# Altium integrated library Xilinx Spartan-3.IntLib: 75 symbols (part 2 of 16)
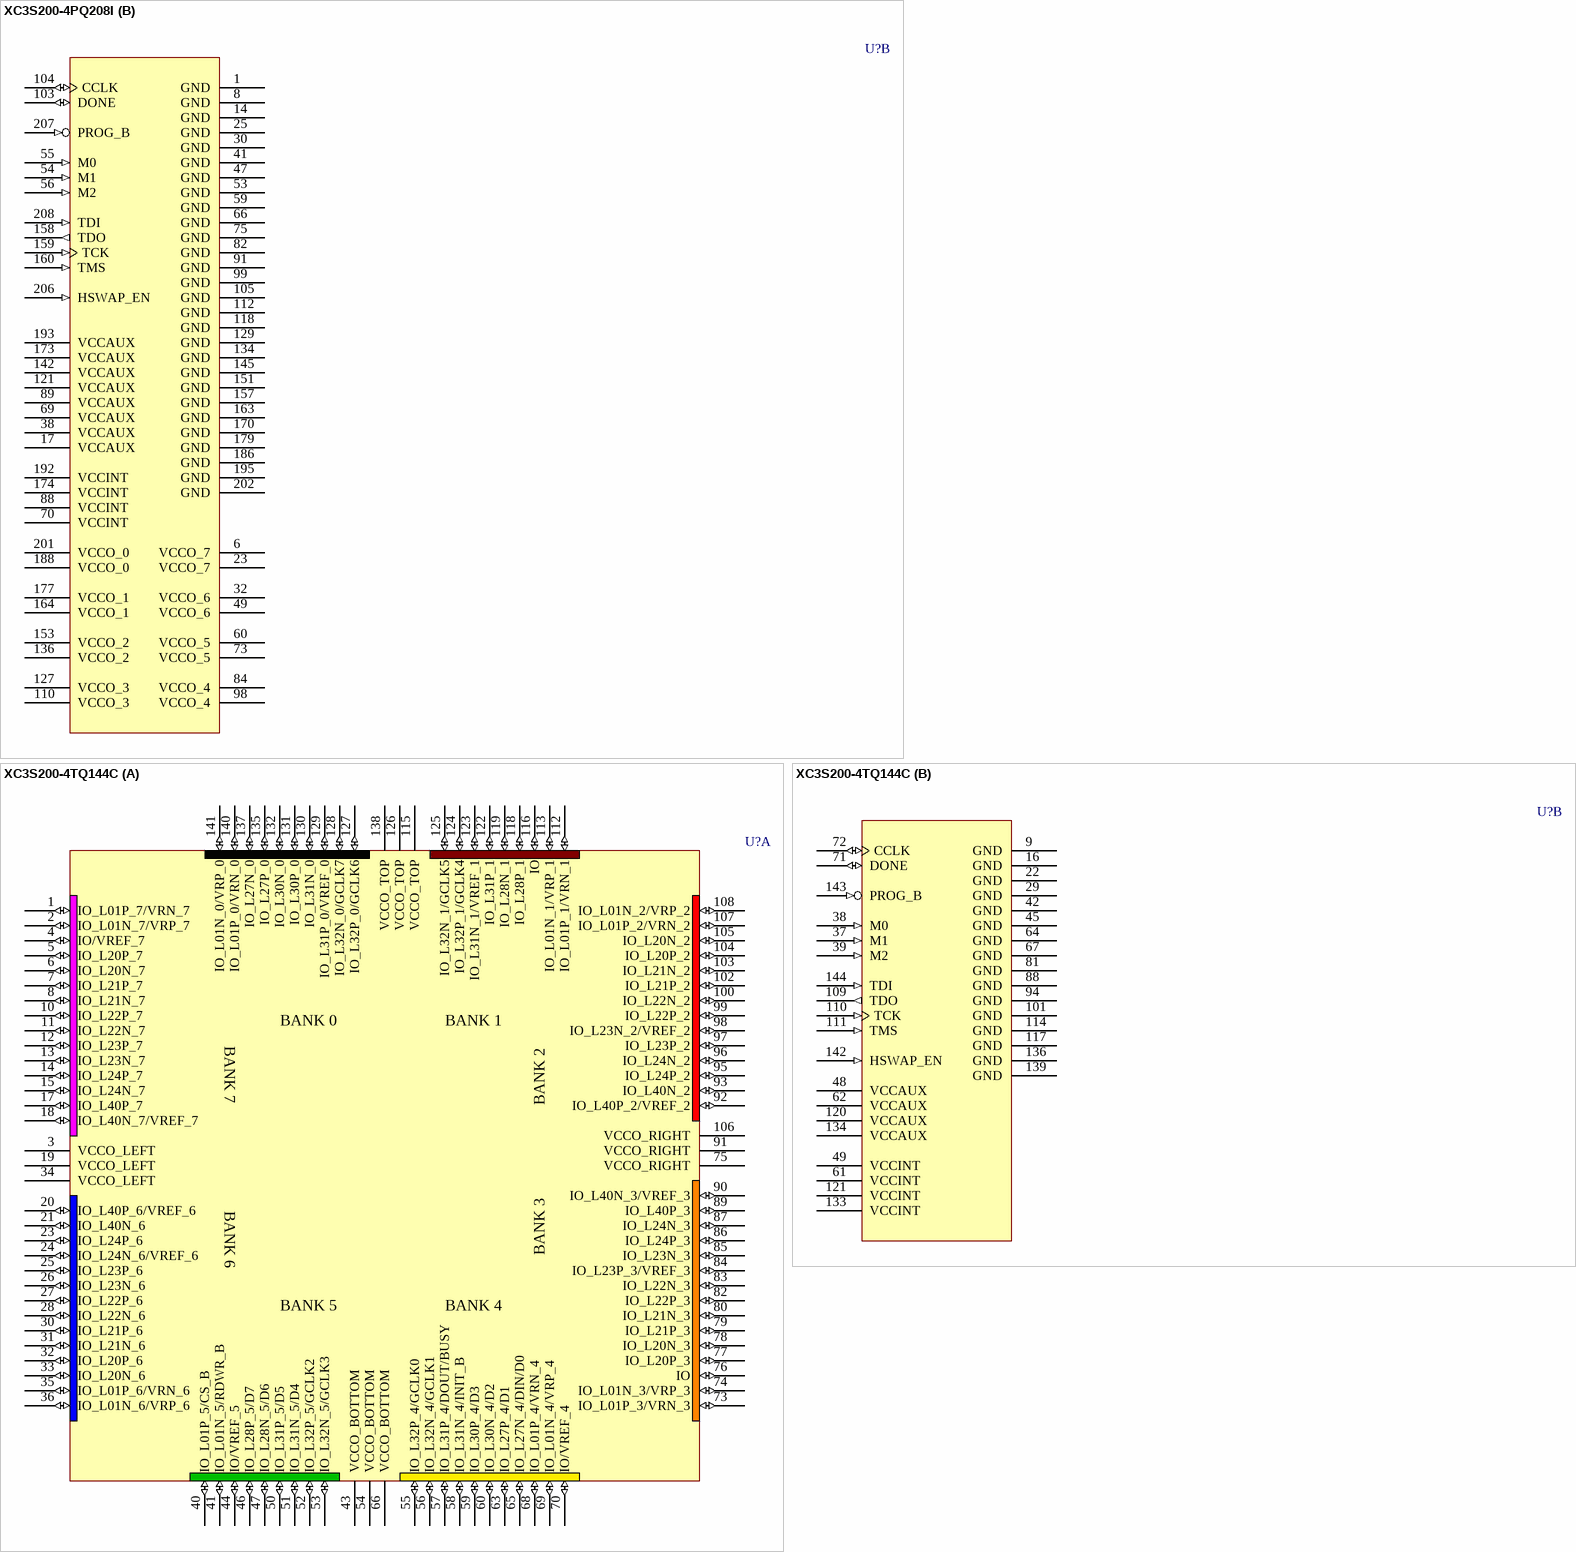
[diagram p168: symbols XC3S200-4PQ208I to XC3S200-4TQ144C]

## XC3S200-4PQ208I
designator U?
Spartan-3 1.2V FPGA, 141 User I/Os, 208-pin PQFP, Standard Performance, Industrial Grade; PackageDocument: ver1.1, Oct-2002; Published: 17-Sep-2003; DatasheetDocument: 04-Mar-2004; PackageReference: PQ208; Publisher: Altium Limited; Code_JEDEC: MS-029-FA-1
footprint PQ208 (208-Pin Plastic Quad Flat Pack (PQ208))
3D model XC3S200-PQ208 (208-Pin Plastic Quad Flat Pack (PQ208))
signal-integrity model XC3S200_PQ208 (Spartan-3)
part A pins: 2 IO_L01P_7/VRN_7 (io), 3 IO_L01N_7/VRP_7 (io), 4 IO_L16P_7/VREF_7 (io), 5 IO_L16N_7 (io), 7 IO_L19P_7 (io), 9 IO_L19N_7/VREF_7 (io), 10 IO_L20P_7 (io), 11 IO_L20N_7 (io), 12 IO_L21P_7 (io), 13 IO_L21N_7 (io), 15 IO_L22P_7 (io), 16 IO_L22N_7 (io), 18 IO_L23P_7 (io), 19 IO_L23N_7 (io), 20 IO_L24P_7 (io), 21 IO_L24N_7 (io), 22 IO_L39P_7 (io), 24 IO_L39N_7 (io), 26 IO_L40P_7 (io), 27 IO_L40N_7/VREF_7 (io), 28 IO_L40P_6/VREF_6 (io), 29 IO_L40N_6 (io), 31 IO_L39P_6 (io), 33 IO_L39N_6 (io), 34 IO_L24P_6 (io), 35 IO_L24N_6/VREF_6 (io), 36 IO_L23P_6 (io), 37 IO_L23N_6 (io), 39 IO_L22P_6 (io), 40 IO_L22N_6 (io), 42 IO_L21P_6 (io), 43 IO_L21N_6 (io), 44 IO_L20P_6 (io), 45 IO_L20N_6 (io), 46 IO_L19P_6 (io), 48 IO_L19N_6 (io), 50 IO/VREF_6 (io), 51 IO_L01P_6/VRN_6 (io), 52 IO_L01N_6/VRP_6 (io), 57 IO_L01P_5/CS_B (io), 58 IO_L01N_5/RDWR_B (io), 61 IO_L10P_5/VRN_5 (io), 62 IO_L10N_5/VRP_5 (io), 63 IO (io), 64 IO_L27P_5 (io), 65 IO_L27N_5/VREF_5 (io), 67 IO_L28P_5/D7 (io), 68 IO_L28N_5/D6 (io), 71 IO (io), 72 IO_L31P_5/D5 (io), 74 IO_L31N_5/D4 (io), 76 IO_L32P_5/GCLK2 (io), 77 IO_L32N_5/GCLK3 (io), 78 IO/VREF_5 (io), 79 IO_L32P_4/GCLK0 (io), 80 IO_L32N_4/GCLK1 (io), 81 IO_L31P_4/DOUT/BUSY (io), 83 IO_L31N_4/INIT_B (io), 85 IO/VREF_4 (io), 86 IO_L30P_4/D3 (io), 87 IO_L30N_4/D2 (io), 90 IO_L27P_4/D1 (io), 92 IO_L27N_4/DIN/D0 (io), 93 IO (io), 94 IO_L25P_4 (io), 95 IO_L25N_4 (io), 96 IO/VREF_4 (io), 97 IO (io), 100 IO_L01P_4/VRN_4 (io), 101 IO_L01N_4/VRP_4 (io), 102 IO/VREF_4 (io), 106 IO_L01P_3/VRN_3 (io), 107 IO_L01N_3/VRP_3 (io), 108 IO_L17P_3/VREF_3 (io), 109 IO_L17N_3 (io), 111 IO_L19P_3 (io), 113 IO_L19N_3 (io), 114 IO_L20P_3 (io), 115 IO_L20N_3 (io), 116 IO_L21P_3 (io), 117 IO_L21N_3 (io), 119 IO_L22P_3 (io), 120 IO_L22N_3 (io), 122 IO_L23P_3/VREF_3 (io), 123 IO_L23N_3 (io), 124 IO_L24P_3 (io), 125 IO_L24N_3 (io), 126 IO_L39P_3 (io), 128 IO_L39N_3 (io), 130 IO_L40P_3 (io), 131 IO_L40N_3/VREF_3 (io), 132 IO_L40P_2/VREF_2 (io), 133 IO_L40N_2 (io), 135 IO_L39P_2 (io), 137 IO_L39N_2 (io), 138 IO_L24P_2 (io), 139 IO_L24N_2 (io), 140 IO_L23P_2 (io), 141 IO_L23N_2/VREF_2 (io), 143 IO_L22P_2 (io), 144 IO_L22N_2 (io), 146 IO_L21P_2 (io), 147 IO_L21N_2 (io), 148 IO_L20P_2 (io), 149 IO_L20N_2 (io), 150 IO_L19P_2 (io), 152 IO_L19N_2 (io), 154 IO/VREF_2 (io), 155 IO_L01P_2/VRN_2 (io), 156 IO_L01N_2/VRP_2 (io), 161 IO_L01P_1/VRN_1 (io), 162 IO_L01N_1/VRP_1 (io), 165 IO_L10P_1 (io), 166 IO_L10N_1/VREF_1 (io), 167 IO (io), 168 IO_L27P_1 (io), 169 IO_L27N_1 (io), 171 IO_L28P_1 (io), 172 IO_L28N_1 (io), 175 IO (io), 176 IO_L31P_1 (io), 178 IO_L31N_1/VREF_1 (io), 180 IO_L32P_1/GCLK4 (io), 181 IO_L32N_1/GCLK5 (io), 182 IO (io), 183 IO_L32P_0/GCLK6 (io), 184 IO_L32N_0/GCLK7 (io), 185 IO_L31P_0/VREF_0 (io), 187 IO_L31N_0 (io), 189 IO (io), 190 IO_L30P_0 (io), 191 IO_L30N_0 (io), 194 IO_L27P_0 (io), 196 IO_L27N_0 (io), 197 IO (io), 198 IO_L25P_0 (io), 199 IO_L25N_0 (io), 200 IO/VREF_0 (io), 203 IO_L01P_0/VRN_0 (io), 204 IO_L01N_0/VRP_0 (io), 205 IO/VREF_0 (io)
part B pins: 1 GND (power), 6 VCCO_7 (power), 8 GND (power), 14 GND (power), 17 VCCAUX (power), 23 VCCO_7 (power), 25 GND (power), 30 GND (power), 32 VCCO_6 (power), 38 VCCAUX (power), 41 GND (power), 47 GND (power), 49 VCCO_6 (power), 53 GND (power), 54 M1 (in), 55 M0 (in), 56 M2 (in), 59 GND (power), 60 VCCO_5 (power), 66 GND (power), 69 VCCAUX (power), 70 VCCINT (power), 73 VCCO_5 (power), 75 GND (power), 82 GND (power), 84 VCCO_4 (power), 88 VCCINT (power), 89 VCCAUX (power), 91 GND (power), 98 VCCO_4 (power), 99 GND (power), 103 DONE (io), 104 CCLK (io), 105 GND (power), 110 VCCO_3 (power), 112 GND (power), 118 GND (power), 121 VCCAUX (power), 127 VCCO_3 (power), 129 GND (power), 134 GND (power), 136 VCCO_2 (power), 142 VCCAUX (power), 145 GND (power), 151 GND (power), 153 VCCO_2 (power), 157 GND (power), 158 TDO (out), 159 TCK (in), 160 TMS (in), 163 GND (power), 164 VCCO_1 (power), 170 GND (power), 173 VCCAUX (power), 174 VCCINT (power), 177 VCCO_1 (power), 179 GND (power), 186 GND (power), 188 VCCO_0 (power), 192 VCCINT (power), 193 VCCAUX (power), 195 GND (power), 201 VCCO_0 (power), 202 GND (power), 206 HSWAP_EN (in), 207 PROG_B (in), 208 TDI (in)
part A text: BANK 0; BANK 1; BANK 7; BANK 2; BANK 6; BANK 3; BANK 5; BANK 4

## XC3S200-4TQ144C
designator U?
Spartan-3 1.2V FPGA, 97 User I/Os, 144-pin TQFP, Standard Performance, Commercial Grade; PackageDocument: ver1.1, Oct-2002; Published: 17-Sep-2003; DatasheetDocument: 04-Mar-2004; PackageReference: TQ144; Publisher: Altium Limited; Code_JEDEC: MS-026-BFB; Code_IPC: SQFP20X20-144
footprint TQ144 (144-Pin Thin Quad Flat Pack (TQ144))
3D model XC3S200-TQ144 (144-Pin Thin Quad Flat Pack (TQ144))
signal-integrity model XC3S200_TQ144 (Spartan-3)
part A pins: 1 IO_L01P_7/VRN_7 (io), 2 IO_L01N_7/VRP_7 (io), 3 VCCO_LEFT (power), 4 IO/VREF_7 (io), 5 IO_L20P_7 (io), 6 IO_L20N_7 (io), 7 IO_L21P_7 (io), 8 IO_L21N_7 (io), 10 IO_L22P_7 (io), 11 IO_L22N_7 (io), 12 IO_L23P_7 (io), 13 IO_L23N_7 (io), 14 IO_L24P_7 (io), 15 IO_L24N_7 (io), 17 IO_L40P_7 (io), 18 IO_L40N_7/VREF_7 (io), 19 VCCO_LEFT (power), 20 IO_L40P_6/VREF_6 (io), 21 IO_L40N_6 (io), 23 IO_L24P_6 (io), 24 IO_L24N_6/VREF_6 (io), 25 IO_L23P_6 (io), 26 IO_L23N_6 (io), 27 IO_L22P_6 (io), 28 IO_L22N_6 (io), 30 IO_L21P_6 (io), 31 IO_L21N_6 (io), 32 IO_L20P_6 (io), 33 IO_L20N_6 (io), 34 VCCO_LEFT (power), 35 IO_L01P_6/VRN_6 (io), 36 IO_L01N_6/VRP_6 (io), 40 IO_L01P_5/CS_B (io), 41 IO_L01N_5/RDWR_B (io), 43 VCCO_BOTTOM (power), 44 IO/VREF_5 (io), 46 IO_L28P_5/D7 (io), 47 IO_L28N_5/D6 (io), 50 IO_L31P_5/D5 (io), 51 IO_L31N_5/D4 (io), 52 IO_L32P_5/GCLK2 (io), 53 IO_L32N_5/GCLK3 (io), 54 VCCO_BOTTOM (power), 55 IO_L32P_4/GCLK0 (io), 56 IO_L32N_4/GCLK1 (io), 57 IO_L31P_4/DOUT/BUSY (io), 58 IO_L31N_4/INIT_B (io), 59 IO_L30P_4/D3 (io), 60 IO_L30N_4/D2 (io), 63 IO_L27P_4/D1 (io), 65 IO_L27N_4/DIN/D0 (io), 66 VCCO_BOTTOM (power), 68 IO_L01P_4/VRN_4 (io), 69 IO_L01N_4/VRP_4 (io), 70 IO/VREF_4 (io), 73 IO_L01P_3/VRN_3 (io), 74 IO_L01N_3/VRP_3 (io), 75 VCCO_RIGHT (power), 76 IO (io), 77 IO_L20P_3 (io), 78 IO_L20N_3 (io), 79 IO_L21P_3 (io), 80 IO_L21N_3 (io), 82 IO_L22P_3 (io), 83 IO_L22N_3 (io), 84 IO_L23P_3/VREF_3 (io), 85 IO_L23N_3 (io), 86 IO_L24P_3 (io), 87 IO_L24N_3 (io), 89 IO_L40P_3 (io), 90 IO_L40N_3/VREF_3 (io), 91 VCCO_RIGHT (power), 92 IO_L40P_2/VREF_2 (io), 93 IO_L40N_2 (io), 95 IO_L24P_2 (io), 96 IO_L24N_2 (io), 97 IO_L23P_2 (io), 98 IO_L23N_2/VREF_2 (io), 99 IO_L22P_2 (io), 100 IO_L22N_2 (io), 102 IO_L21P_2 (io), 103 IO_L21N_2 (io), 104 IO_L20P_2 (io), 105 IO_L20N_2 (io), 106 VCCO_RIGHT (power), 107 IO_L01P_2/VRN_2 (io), 108 IO_L01N_2/VRP_2 (io), 112 IO_L01P_1/VRN_1 (io), 113 IO_L01N_1/VRP_1 (io), 115 VCCO_TOP (power), 116 IO (io), 118 IO_L28P_1 (io), 119 IO_L28N_1 (io), 122 IO_L31P_1 (io), 123 IO_L31N_1/VREF_1 (io), 124 IO_L32P_1/GCLK4 (io), 125 IO_L32N_1/GCLK5 (io), 126 VCCO_TOP (power), 127 IO_L32P_0/GCLK6 (io), 128 IO_L32N_0/GCLK7 (io), 129 IO_L31P_0/VREF_0 (io), 130 IO_L31N_0 (io), 131 IO_L30P_0 (io), 132 IO_L30N_0 (io), 135 IO_L27P_0 (io), 137 IO_L27N_0 (io), 138 VCCO_TOP (power), 140 IO_L01P_0/VRN_0 (io), 141 IO_L01N_0/VRP_0 (io)
part B pins: 9 GND (power), 16 GND (power), 22 GND (power), 29 GND (power), 37 M1 (in), 38 M0 (in), 39 M2 (in), 42 GND (power), 45 GND (power), 48 VCCAUX (power), 49 VCCINT (power), 61 VCCINT (power), 62 VCCAUX (power), 64 GND (power), 67 GND (power), 71 DONE (io), 72 CCLK (io), 81 GND (power), 88 GND (power), 94 GND (power), 101 GND (power), 109 TDO (out), 110 TCK (in), 111 TMS (in), 114 GND (power), 117 GND (power), 120 VCCAUX (power), 121 VCCINT (power), 133 VCCINT (power), 134 VCCAUX (power), 136 GND (power), 139 GND (power), 142 HSWAP_EN (in), 143 PROG_B (in), 144 TDI (in)
part A text: BANK 0; BANK 1; BANK 7; BANK 2; BANK 6; BANK 3; BANK 5; BANK 4

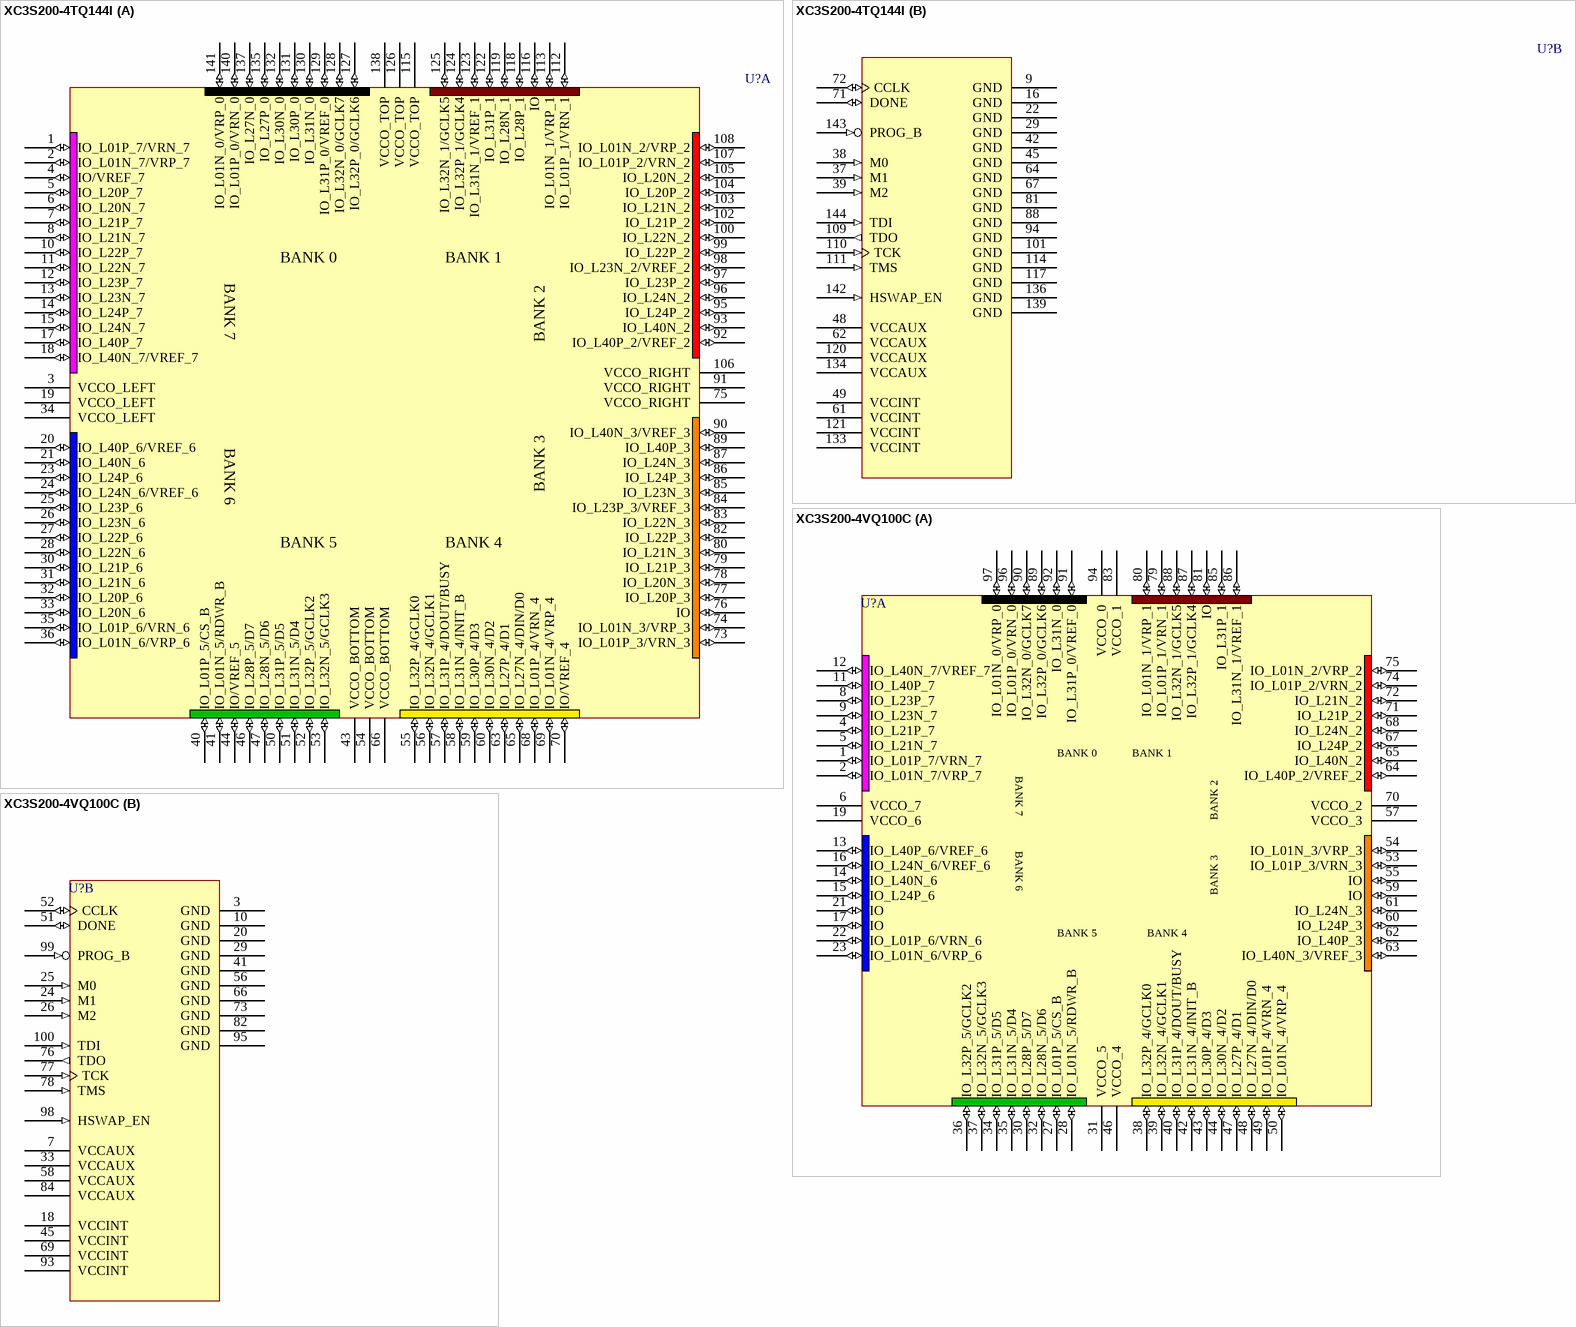
[diagram p14: symbols XC3S200-4TQ144I to XC3S200-4VQ100C]

## XC3S200-4TQ144I
designator U?
Spartan-3 1.2V FPGA, 97 User I/Os, 144-pin TQFP, Standard Performance, Industrial Grade; PackageDocument: ver1.1, Oct-2002; Published: 17-Sep-2003; DatasheetDocument: 04-Mar-2004; PackageReference: TQ144; Publisher: Altium Limited; Code_JEDEC: MS-026-BFB; Code_IPC: SQFP20X20-144
footprint TQ144 (144-Pin Thin Quad Flat Pack (TQ144))
3D model XC3S200-TQ144 (144-Pin Thin Quad Flat Pack (TQ144))
signal-integrity model XC3S200_TQ144 (Spartan-3)
part A pins: 1 IO_L01P_7/VRN_7 (io), 2 IO_L01N_7/VRP_7 (io), 3 VCCO_LEFT (power), 4 IO/VREF_7 (io), 5 IO_L20P_7 (io), 6 IO_L20N_7 (io), 7 IO_L21P_7 (io), 8 IO_L21N_7 (io), 10 IO_L22P_7 (io), 11 IO_L22N_7 (io), 12 IO_L23P_7 (io), 13 IO_L23N_7 (io), 14 IO_L24P_7 (io), 15 IO_L24N_7 (io), 17 IO_L40P_7 (io), 18 IO_L40N_7/VREF_7 (io), 19 VCCO_LEFT (power), 20 IO_L40P_6/VREF_6 (io), 21 IO_L40N_6 (io), 23 IO_L24P_6 (io), 24 IO_L24N_6/VREF_6 (io), 25 IO_L23P_6 (io), 26 IO_L23N_6 (io), 27 IO_L22P_6 (io), 28 IO_L22N_6 (io), 30 IO_L21P_6 (io), 31 IO_L21N_6 (io), 32 IO_L20P_6 (io), 33 IO_L20N_6 (io), 34 VCCO_LEFT (power), 35 IO_L01P_6/VRN_6 (io), 36 IO_L01N_6/VRP_6 (io), 40 IO_L01P_5/CS_B (io), 41 IO_L01N_5/RDWR_B (io), 43 VCCO_BOTTOM (power), 44 IO/VREF_5 (io), 46 IO_L28P_5/D7 (io), 47 IO_L28N_5/D6 (io), 50 IO_L31P_5/D5 (io), 51 IO_L31N_5/D4 (io), 52 IO_L32P_5/GCLK2 (io), 53 IO_L32N_5/GCLK3 (io), 54 VCCO_BOTTOM (power), 55 IO_L32P_4/GCLK0 (io), 56 IO_L32N_4/GCLK1 (io), 57 IO_L31P_4/DOUT/BUSY (io), 58 IO_L31N_4/INIT_B (io), 59 IO_L30P_4/D3 (io), 60 IO_L30N_4/D2 (io), 63 IO_L27P_4/D1 (io), 65 IO_L27N_4/DIN/D0 (io), 66 VCCO_BOTTOM (power), 68 IO_L01P_4/VRN_4 (io), 69 IO_L01N_4/VRP_4 (io), 70 IO/VREF_4 (io), 73 IO_L01P_3/VRN_3 (io), 74 IO_L01N_3/VRP_3 (io), 75 VCCO_RIGHT (power), 76 IO (io), 77 IO_L20P_3 (io), 78 IO_L20N_3 (io), 79 IO_L21P_3 (io), 80 IO_L21N_3 (io), 82 IO_L22P_3 (io), 83 IO_L22N_3 (io), 84 IO_L23P_3/VREF_3 (io), 85 IO_L23N_3 (io), 86 IO_L24P_3 (io), 87 IO_L24N_3 (io), 89 IO_L40P_3 (io), 90 IO_L40N_3/VREF_3 (io), 91 VCCO_RIGHT (power), 92 IO_L40P_2/VREF_2 (io), 93 IO_L40N_2 (io), 95 IO_L24P_2 (io), 96 IO_L24N_2 (io), 97 IO_L23P_2 (io), 98 IO_L23N_2/VREF_2 (io), 99 IO_L22P_2 (io), 100 IO_L22N_2 (io), 102 IO_L21P_2 (io), 103 IO_L21N_2 (io), 104 IO_L20P_2 (io), 105 IO_L20N_2 (io), 106 VCCO_RIGHT (power), 107 IO_L01P_2/VRN_2 (io), 108 IO_L01N_2/VRP_2 (io), 112 IO_L01P_1/VRN_1 (io), 113 IO_L01N_1/VRP_1 (io), 115 VCCO_TOP (power), 116 IO (io), 118 IO_L28P_1 (io), 119 IO_L28N_1 (io), 122 IO_L31P_1 (io), 123 IO_L31N_1/VREF_1 (io), 124 IO_L32P_1/GCLK4 (io), 125 IO_L32N_1/GCLK5 (io), 126 VCCO_TOP (power), 127 IO_L32P_0/GCLK6 (io), 128 IO_L32N_0/GCLK7 (io), 129 IO_L31P_0/VREF_0 (io), 130 IO_L31N_0 (io), 131 IO_L30P_0 (io), 132 IO_L30N_0 (io), 135 IO_L27P_0 (io), 137 IO_L27N_0 (io), 138 VCCO_TOP (power), 140 IO_L01P_0/VRN_0 (io), 141 IO_L01N_0/VRP_0 (io)
part B pins: 9 GND (power), 16 GND (power), 22 GND (power), 29 GND (power), 37 M1 (in), 38 M0 (in), 39 M2 (in), 42 GND (power), 45 GND (power), 48 VCCAUX (power), 49 VCCINT (power), 61 VCCINT (power), 62 VCCAUX (power), 64 GND (power), 67 GND (power), 71 DONE (io), 72 CCLK (io), 81 GND (power), 88 GND (power), 94 GND (power), 101 GND (power), 109 TDO (out), 110 TCK (in), 111 TMS (in), 114 GND (power), 117 GND (power), 120 VCCAUX (power), 121 VCCINT (power), 133 VCCINT (power), 134 VCCAUX (power), 136 GND (power), 139 GND (power), 142 HSWAP_EN (in), 143 PROG_B (in), 144 TDI (in)
part A text: BANK 0; BANK 1; BANK 7; BANK 2; BANK 6; BANK 3; BANK 5; BANK 4

## XC3S200-4VQ100C
designator U?
Spartan-3 1.2V FPGA, 63 User I/Os, 100-pin VQFP, Standard Performance, Commercial Grade; PackageDocument: ver1.1, Oct-2002; Published: 17-Sep-2003; DatasheetDocument: 04-Mar-2004; PackageReference: VQ100; Publisher: Altium Limited; Code_JEDEC: MS-026-AED; Code_IPC: SQFP14X14-100
footprint VQ100 (100-Pin Very Thin Quad Flat Pack (VQ100))
3D model XC3S200-VQ100 (100-Pin Very Thin Quad Flat Pack (VQ100))
signal-integrity model XC3S200_VQ100 (Spartan-3)
part A pins: 1 IO_L01P_7/VRN_7 (io), 2 IO_L01N_7/VRP_7 (io), 4 IO_L21P_7 (io), 5 IO_L21N_7 (io), 6 VCCO_7 (power), 8 IO_L23P_7 (io), 9 IO_L23N_7 (io), 11 IO_L40P_7 (io), 12 IO_L40N_7/VREF_7 (io), 13 IO_L40P_6/VREF_6 (io), 14 IO_L40N_6 (io), 15 IO_L24P_6 (io), 16 IO_L24N_6/VREF_6 (io), 17 IO (io), 19 VCCO_6 (power), 21 IO (io), 22 IO_L01P_6/VRN_6 (io), 23 IO_L01N_6/VRP_6 (io), 27 IO_L01P_5/CS_B (io), 28 IO_L01N_5/RDWR_B (io), 30 IO_L28P_5/D7 (io), 31 VCCO_5 (power), 32 IO_L28N_5/D6 (io), 34 IO_L31P_5/D5 (io), 35 IO_L31N_5/D4 (io), 36 IO_L32P_5/GCLK2 (io), 37 IO_L32N_5/GCLK3 (io), 38 IO_L32P_4/GCLK0 (io), 39 IO_L32N_4/GCLK1 (io), 40 IO_L31P_4/DOUT/BUSY (io), 42 IO_L31N_4/INIT_B (io), 43 IO_L30P_4/D3 (io), 44 IO_L30N_4/D2 (io), 46 VCCO_4 (power), 47 IO_L27P_4/D1 (io), 48 IO_L27N_4/DIN/D0 (io), 49 IO_L01P_4/VRN_4 (io), 50 IO_L01N_4/VRP_4 (io), 53 IO_L01P_3/VRN_3 (io), 54 IO_L01N_3/VRP_3 (io), 55 IO (io), 57 VCCO_3 (power), 59 IO (io), 60 IO_L24P_3 (io), 61 IO_L24N_3 (io), 62 IO_L40P_3 (io), 63 IO_L40N_3/VREF_3 (io), 64 IO_L40P_2/VREF_2 (io), 65 IO_L40N_2 (io), 67 IO_L24P_2 (io), 68 IO_L24N_2 (io), 70 VCCO_2 (power), 71 IO_L21P_2 (io), 72 IO_L21N_2 (io), 74 IO_L01P_2/VRN_2 (io), 75 IO_L01N_2/VRP_2 (io), 79 IO_L01P_1/VRN_1 (io), 80 IO_L01N_1/VRP_1 (io), 81 IO (io), 83 VCCO_1 (power), 85 IO_L31P_1 (io), 86 IO_L31N_1/VREF_1 (io), 87 IO_L32P_1/GCLK4 (io), 88 IO_L32N_1/GCLK5 (io), 89 IO_L32P_0/GCLK6 (io), 90 IO_L32N_0/GCLK7 (io), 91 IO_L31P_0/VREF_0 (io), 92 IO_L31N_0 (io), 94 VCCO_0 (power), 96 IO_L01P_0/VRN_0 (io), 97 IO_L01N_0/VRP_0 (io)
part B pins: 3 GND (power), 7 VCCAUX (power), 10 GND (power), 18 VCCINT (power), 20 GND (power), 24 M1 (in), 25 M0 (in), 26 M2 (in), 29 GND (power), 33 VCCAUX (power), 41 GND (power), 45 VCCINT (power), 51 DONE (io), 52 CCLK (io), 56 GND (power), 58 VCCAUX (power), 66 GND (power), 69 VCCINT (power), 73 GND (power), 76 TDO (out), 77 TCK (in), 78 TMS (in), 82 GND (power), 84 VCCAUX (power), 93 VCCINT (power), 95 GND (power), 98 HSWAP_EN (in), 99 PROG_B (in), 100 TDI (in)
part A text: BANK 0; BANK 1; BANK 7; BANK 2; BANK 6; BANK 3; BANK 5; BANK 4

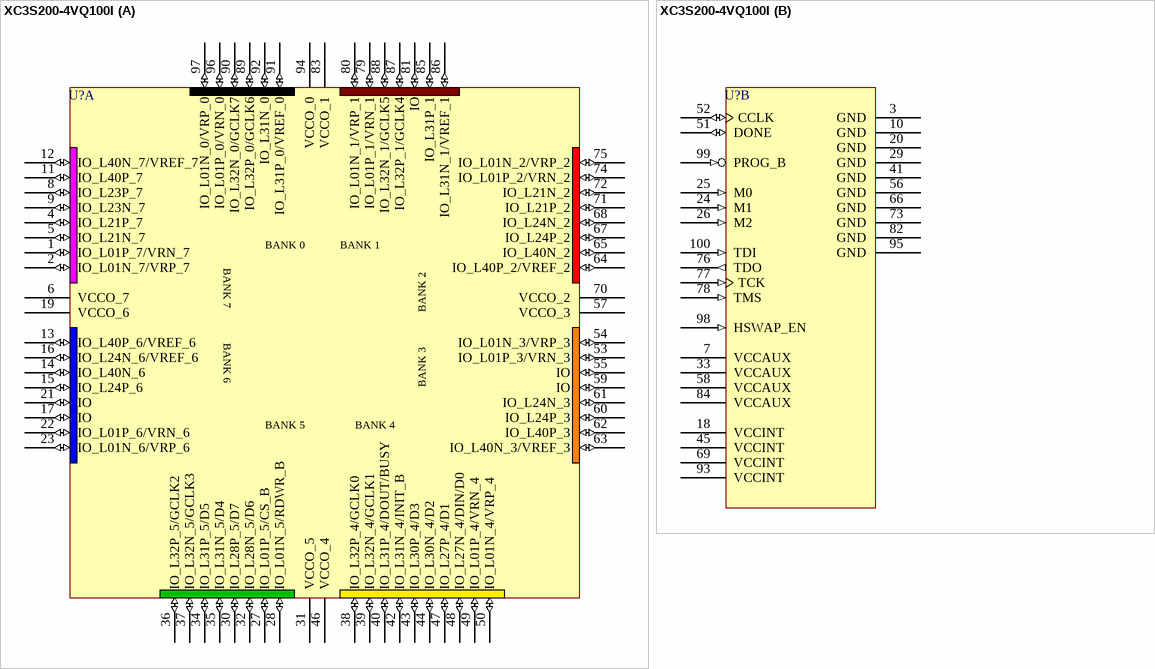
[diagram p15: symbol XC3S200-4VQ100I]

## XC3S200-4VQ100I
designator U?
Spartan-3 1.2V FPGA, 63 User I/Os, 100-pin VQFP, Standard Performance, Industrial Grade; PackageDocument: ver1.1, Oct-2002; Published: 17-Sep-2003; DatasheetDocument: 04-Mar-2004; PackageReference: VQ100; Publisher: Altium Limited; Code_JEDEC: MS-026-AED; Code_IPC: SQFP14X14-100
footprint VQ100 (100-Pin Very Thin Quad Flat Pack (VQ100))
3D model XC3S200-VQ100 (100-Pin Very Thin Quad Flat Pack (VQ100))
signal-integrity model XC3S200_VQ100 (Spartan-3)
part A pins: 1 IO_L01P_7/VRN_7 (io), 2 IO_L01N_7/VRP_7 (io), 4 IO_L21P_7 (io), 5 IO_L21N_7 (io), 6 VCCO_7 (power), 8 IO_L23P_7 (io), 9 IO_L23N_7 (io), 11 IO_L40P_7 (io), 12 IO_L40N_7/VREF_7 (io), 13 IO_L40P_6/VREF_6 (io), 14 IO_L40N_6 (io), 15 IO_L24P_6 (io), 16 IO_L24N_6/VREF_6 (io), 17 IO (io), 19 VCCO_6 (power), 21 IO (io), 22 IO_L01P_6/VRN_6 (io), 23 IO_L01N_6/VRP_6 (io), 27 IO_L01P_5/CS_B (io), 28 IO_L01N_5/RDWR_B (io), 30 IO_L28P_5/D7 (io), 31 VCCO_5 (power), 32 IO_L28N_5/D6 (io), 34 IO_L31P_5/D5 (io), 35 IO_L31N_5/D4 (io), 36 IO_L32P_5/GCLK2 (io), 37 IO_L32N_5/GCLK3 (io), 38 IO_L32P_4/GCLK0 (io), 39 IO_L32N_4/GCLK1 (io), 40 IO_L31P_4/DOUT/BUSY (io), 42 IO_L31N_4/INIT_B (io), 43 IO_L30P_4/D3 (io), 44 IO_L30N_4/D2 (io), 46 VCCO_4 (power), 47 IO_L27P_4/D1 (io), 48 IO_L27N_4/DIN/D0 (io), 49 IO_L01P_4/VRN_4 (io), 50 IO_L01N_4/VRP_4 (io), 53 IO_L01P_3/VRN_3 (io), 54 IO_L01N_3/VRP_3 (io), 55 IO (io), 57 VCCO_3 (power), 59 IO (io), 60 IO_L24P_3 (io), 61 IO_L24N_3 (io), 62 IO_L40P_3 (io), 63 IO_L40N_3/VREF_3 (io), 64 IO_L40P_2/VREF_2 (io), 65 IO_L40N_2 (io), 67 IO_L24P_2 (io), 68 IO_L24N_2 (io), 70 VCCO_2 (power), 71 IO_L21P_2 (io), 72 IO_L21N_2 (io), 74 IO_L01P_2/VRN_2 (io), 75 IO_L01N_2/VRP_2 (io), 79 IO_L01P_1/VRN_1 (io), 80 IO_L01N_1/VRP_1 (io), 81 IO (io), 83 VCCO_1 (power), 85 IO_L31P_1 (io), 86 IO_L31N_1/VREF_1 (io), 87 IO_L32P_1/GCLK4 (io), 88 IO_L32N_1/GCLK5 (io), 89 IO_L32P_0/GCLK6 (io), 90 IO_L32N_0/GCLK7 (io), 91 IO_L31P_0/VREF_0 (io), 92 IO_L31N_0 (io), 94 VCCO_0 (power), 96 IO_L01P_0/VRN_0 (io), 97 IO_L01N_0/VRP_0 (io)
part B pins: 3 GND (power), 7 VCCAUX (power), 10 GND (power), 18 VCCINT (power), 20 GND (power), 24 M1 (in), 25 M0 (in), 26 M2 (in), 29 GND (power), 33 VCCAUX (power), 41 GND (power), 45 VCCINT (power), 51 DONE (io), 52 CCLK (io), 56 GND (power), 58 VCCAUX (power), 66 GND (power), 69 VCCINT (power), 73 GND (power), 76 TDO (out), 77 TCK (in), 78 TMS (in), 82 GND (power), 84 VCCAUX (power), 93 VCCINT (power), 95 GND (power), 98 HSWAP_EN (in), 99 PROG_B (in), 100 TDI (in)
part A text: BANK 0; BANK 1; BANK 7; BANK 2; BANK 6; BANK 3; BANK 5; BANK 4

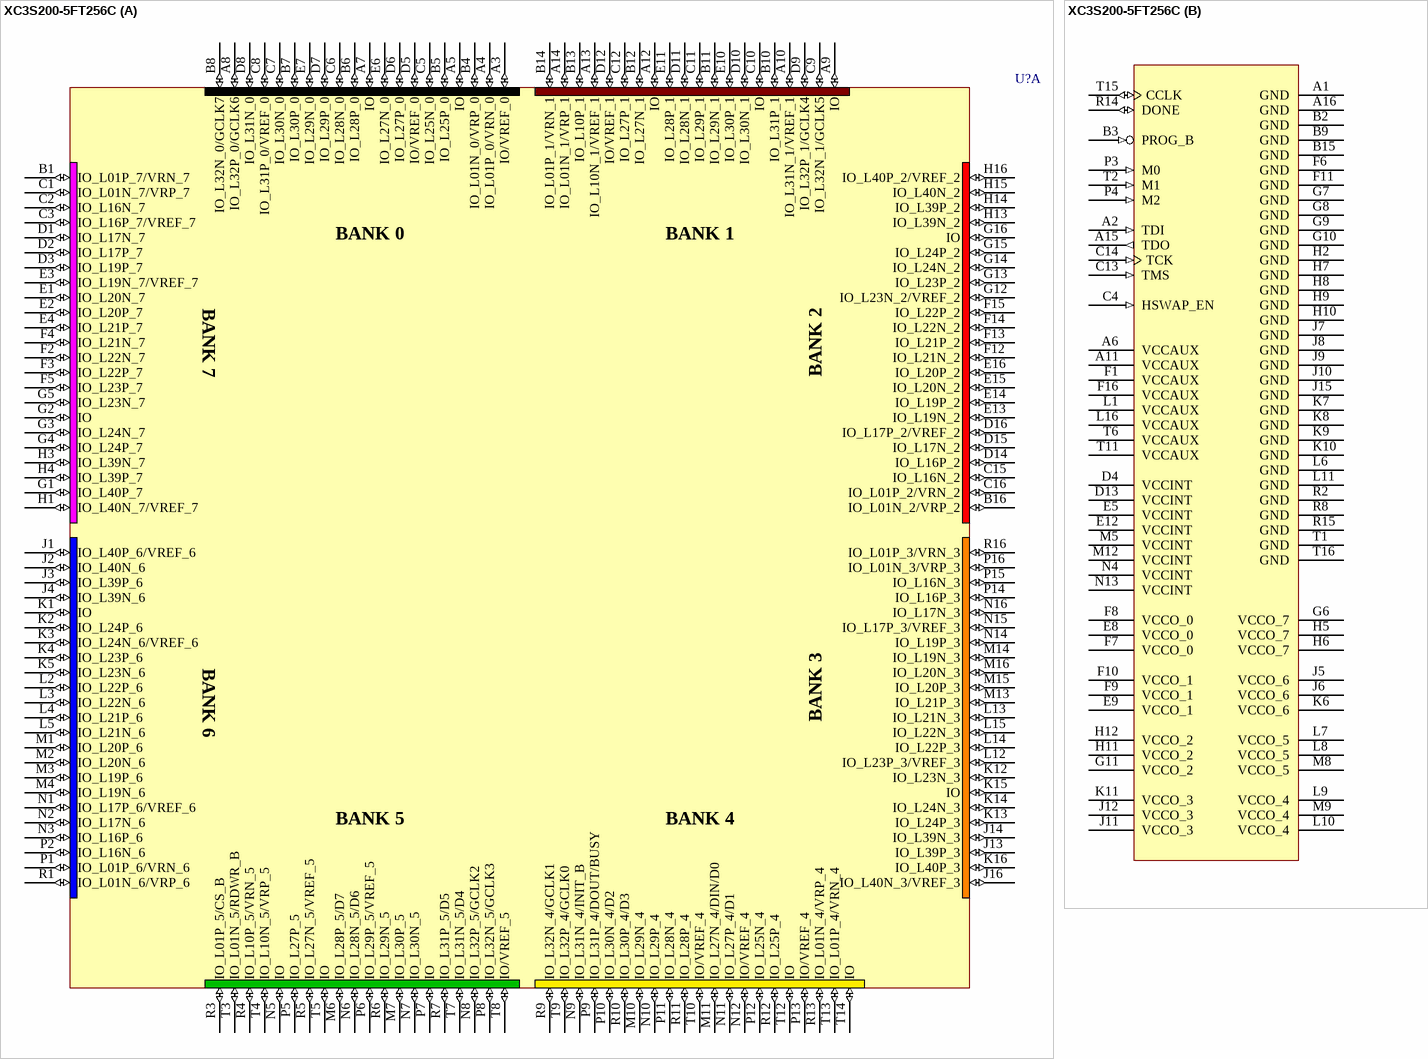
[diagram p16: symbol XC3S200-5FT256C]

## XC3S200-5FT256C
designator U?
Spartan-3 1.2V FPGA, 173 User I/Os, 256-ball FTBGA, High Performance, Commercial Grade; PackageDocument: ver1.0, Apr-2001; Published: 17-Sep-2003; DatasheetDocument: 04-Mar-2004; PackageReference: FT256; Publisher: Altium Limited; Code_JEDEC: MS-034-AAF-1*
footprint FT256 (256-Ball Fine Pitch Thin Ball Grid Array (FT256))
3D model XC3S200-FT256 (256-Ball Fine Pitch Thin Ball Grid Array (FT256))
signal-integrity model XC3S200_FT256 (Spartan-3)
part A pins: A3 IO/VREF_0 (io), A4 IO_L01P_0/VRN_0 (io), A5 IO (io), A7 IO (io), A8 IO_L32P_0/GCLK6 (io), A9 IO (io), A10 IO_L31N_1/VREF_1 (io), A12 IO (io), A13 IO_L10N_1/VREF_1 (io), A14 IO_L01N_1/VRP_1 (io), B1 IO_L01P_7/VRN_7 (io), B4 IO_L01N_0/VRP_0 (io), B5 IO_L25P_0 (io), B6 IO_L28P_0 (io), B7 IO_L30P_0 (io), B8 IO_L32N_0/GCLK7 (io), B10 IO_L31P_1 (io), B11 IO_L29N_1 (io), B12 IO_L27N_1 (io), B13 IO_L10P_1 (io), B14 IO_L01P_1/VRN_1 (io), B16 IO_L01N_2/VRP_2 (io), C1 IO_L01N_7/VRP_7 (io), C2 IO_L16N_7 (io), C3 IO_L16P_7/VREF_7 (io), C5 IO_L25N_0 (io), C6 IO_L28N_0 (io), C7 IO_L30N_0 (io), C8 IO_L31P_0/VREF_0 (io), C9 IO_L32N_1/GCLK5 (io), C10 IO (io), C11 IO_L29P_1 (io), C12 IO_L27P_1 (io), C15 IO_L16N_2 (io), C16 IO_L01P_2/VRN_2 (io), D1 IO_L17N_7 (io), D2 IO_L17P_7 (io), D3 IO_L19P_7 (io), D5 IO/VREF_0 (io), D6 IO_L27P_0 (io), D7 IO_L29P_0 (io), D8 IO_L31N_0 (io), D9 IO_L32P_1/GCLK4 (io), D10 IO_L30N_1 (io), D11 IO_L28N_1 (io), D12 IO/VREF_1 (io), D14 IO_L16P_2 (io), D15 IO_L17N_2 (io), D16 IO_L17P_2/VREF_2 (io), E1 IO_L20N_7 (io), E2 IO_L20P_7 (io), E3 IO_L19N_7/VREF_7 (io), E4 IO_L21P_7 (io), E6 IO_L27N_0 (io), E7 IO_L29N_0 (io), E10 IO_L30P_1 (io), E11 IO_L28P_1 (io), E13 IO_L19N_2 (io), E14 IO_L19P_2 (io), E15 IO_L20N_2 (io), E16 IO_L20P_2 (io), F2 IO_L22N_7 (io), F3 IO_L22P_7 (io), F4 IO_L21N_7 (io), F5 IO_L23P_7 (io), F12 IO_L21N_2 (io), F13 IO_L21P_2 (io), F14 IO_L22N_2 (io), F15 IO_L22P_2 (io), G1 IO_L40P_7 (io), G2 IO (io), G3 IO_L24N_7 (io), G4 IO_L24P_7 (io), G5 IO_L23N_7 (io), G12 IO_L23N_2/VREF_2 (io), G13 IO_L23P_2 (io), G14 IO_L24N_2 (io), G15 IO_L24P_2 (io), G16 IO (io), H1 IO_L40N_7/VREF_7 (io), H3 IO_L39N_7 (io), H4 IO_L39P_7 (io), H13 IO_L39N_2 (io), H14 IO_L39P_2 (io), H15 IO_L40N_2 (io), H16 IO_L40P_2/VREF_2 (io), J1 IO_L40P_6/VREF_6 (io), J2 IO_L40N_6 (io), J3 IO_L39P_6 (io), J4 IO_L39N_6 (io), J13 IO_L39P_3 (io), J14 IO_L39N_3 (io), J16 IO_L40N_3/VREF_3 (io), K1 IO (io), K2 IO_L24P_6 (io), K3 IO_L24N_6/VREF_6 (io), K4 IO_L23P_6 (io), K5 IO_L23N_6 (io), K12 IO_L23N_3 (io), K13 IO_L24P_3 (io), K14 IO_L24N_3 (io), K15 IO (io), K16 IO_L40P_3 (io), L2 IO_L22P_6 (io), L3 IO_L22N_6 (io), L4 IO_L21P_6 (io), L5 IO_L21N_6 (io), L12 IO_L23P_3/VREF_3 (io), L13 IO_L21N_3 (io), L14 IO_L22P_3 (io), L15 IO_L22N_3 (io), M1 IO_L20P_6 (io), M2 IO_L20N_6 (io), M3 IO_L19P_6 (io), M4 IO_L19N_6 (io), M6 IO_L28P_5/D7 (io), M7 IO_L30P_5 (io), M10 IO_L29N_4 (io), M11 IO_L27N_4/DIN/D0 (io), M13 IO_L21P_3 (io), M14 IO_L19N_3 (io), M15 IO_L20P_3 (io), M16 IO_L20N_3 (io), N1 IO_L17P_6/VREF_6 (io), N2 IO_L17N_6 (io), N3 IO_L16P_6 (io), N5 IO (io), N6 IO_L28N_5/D6 (io), N7 IO_L30N_5 (io), N8 IO_L32P_5/GCLK2 (io), N9 IO_L31N_4/INIT_B (io), N10 IO_L29P_4 (io), N11 IO_L27P_4/D1 (io), N12 IO/VREF_4 (io), N14 IO_L19P_3 (io), N15 IO_L17P_3/VREF_3 (io), N16 IO_L17N_3 (io), P1 IO_L01P_6/VRN_6 (io), P2 IO_L16N_6 (io), P5 IO_L27P_5 (io), P6 IO_L29P_5/VREF_5 (io), P7 IO (io), P8 IO_L32N_5/GCLK3 (io), P9 IO_L31P_4/DOUT/BUSY (io), P10 IO_L30N_4/D2 (io), P11 IO_L28N_4 (io), P12 IO_L25N_4 (io), P13 IO/VREF_4 (io), P14 IO_L16P_3 (io), P15 IO_L16N_3 (io), P16 IO_L01N_3/VRP_3 (io), R1 IO_L01N_6/VRP_6 (io), R3 IO_L01P_5/CS_B (io), R4 IO_L10P_5/VRN_5 (io), R5 IO_L27N_5/VREF_5 (io), R6 IO_L29N_5 (io), R7 IO_L31P_5/D5 (io), R9 IO_L32N_4/GCLK1 (io), R10 IO_L30P_4/D3 (io), R11 IO_L28P_4 (io), R12 IO_L25P_4 (io), R13 IO_L01N_4/VRP_4 (io), R16 IO_L01P_3/VRN_3 (io), T3 IO_L01N_5/RDWR_B (io), T4 IO_L10N_5/VRP_5 (io), T5 IO (io), T7 IO_L31N_5/D4 (io), T8 IO/VREF_5 (io), T9 IO_L32P_4/GCLK0 (io), T10 IO/VREF_4 (io), T12 IO (io), T13 IO_L01P_4/VRN_4 (io), T14 IO (io)
part B pins: A1 GND (power), A2 TDI (in), A6 VCCAUX (power), A11 VCCAUX (power), A15 TDO (out), A16 GND (power), B2 GND (power), B3 PROG_B (in), B9 GND (power), B15 GND (power), C4 HSWAP_EN (in), C13 TMS (in), C14 TCK (in), D4 VCCINT (power), D13 VCCINT (power), E5 VCCINT (power), E8 VCCO_0 (power), E9 VCCO_1 (power), E12 VCCINT (power), F1 VCCAUX (power), F6 GND (power), F7 VCCO_0 (power), F8 VCCO_0 (power), F9 VCCO_1 (power), F10 VCCO_1 (power), F11 GND (power), F16 VCCAUX (power), G6 VCCO_7 (power), G7 GND (power), G8 GND (power), G9 GND (power), G10 GND (power), G11 VCCO_2 (power), H2 GND (power), H5 VCCO_7 (power), H6 VCCO_7 (power), H7 GND (power), H8 GND (power), H9 GND (power), H10 GND (power), H11 VCCO_2 (power), H12 VCCO_2 (power), J5 VCCO_6 (power), J6 VCCO_6 (power), J7 GND (power), J8 GND (power), J9 GND (power), J10 GND (power), J11 VCCO_3 (power), J12 VCCO_3 (power), J15 GND (power), K6 VCCO_6 (power), K7 GND (power), K8 GND (power), K9 GND (power), K10 GND (power), K11 VCCO_3 (power), L1 VCCAUX (power), L6 GND (power), L7 VCCO_5 (power), L8 VCCO_5 (power), L9 VCCO_4 (power), L10 VCCO_4 (power), L11 GND (power), L16 VCCAUX (power), M5 VCCINT (power), M8 VCCO_5 (power), M9 VCCO_4 (power), M12 VCCINT (power), N4 VCCINT (power), N13 VCCINT (power), P3 M0 (in), P4 M2 (in), R2 GND (power), R8 GND (power), R14 DONE (io), R15 GND (power), T1 GND (power), T2 M1 (in), T6 VCCAUX (power), T11 VCCAUX (power), T15 CCLK (io), T16 GND (power)
part A text: BANK 0; BANK 1; BANK 7; BANK 2; BANK 6; BANK 3; BANK 5; BANK 4

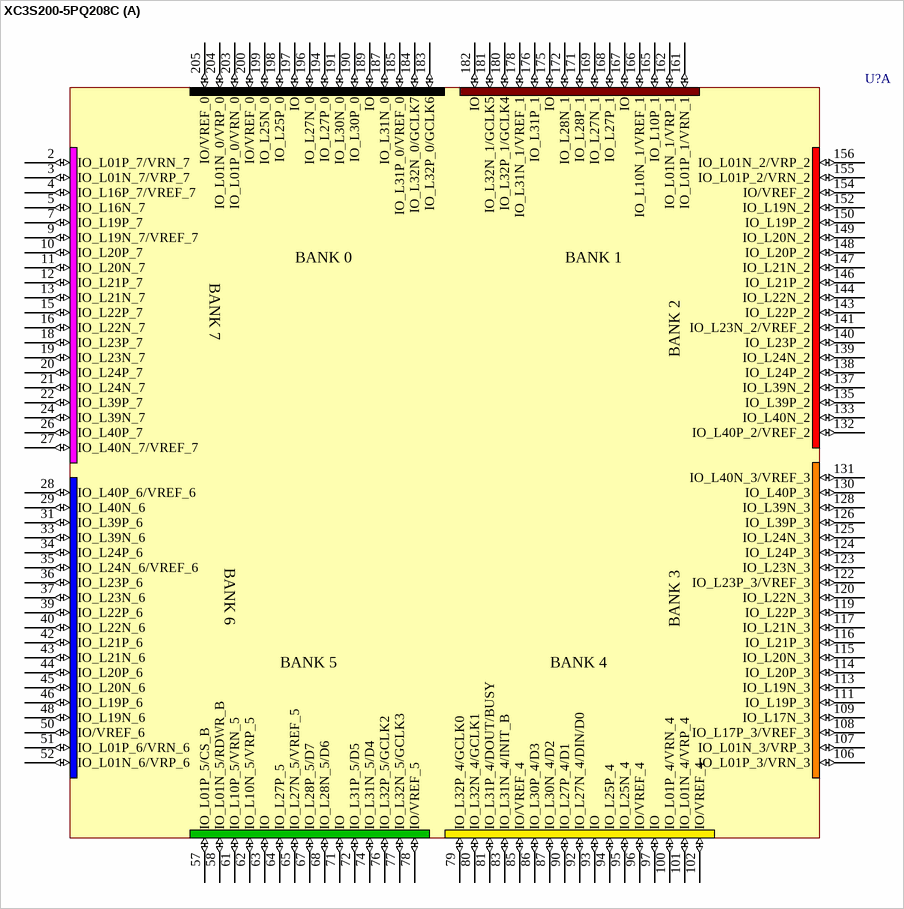
[diagram p17: symbol XC3S200-5PQ208C]

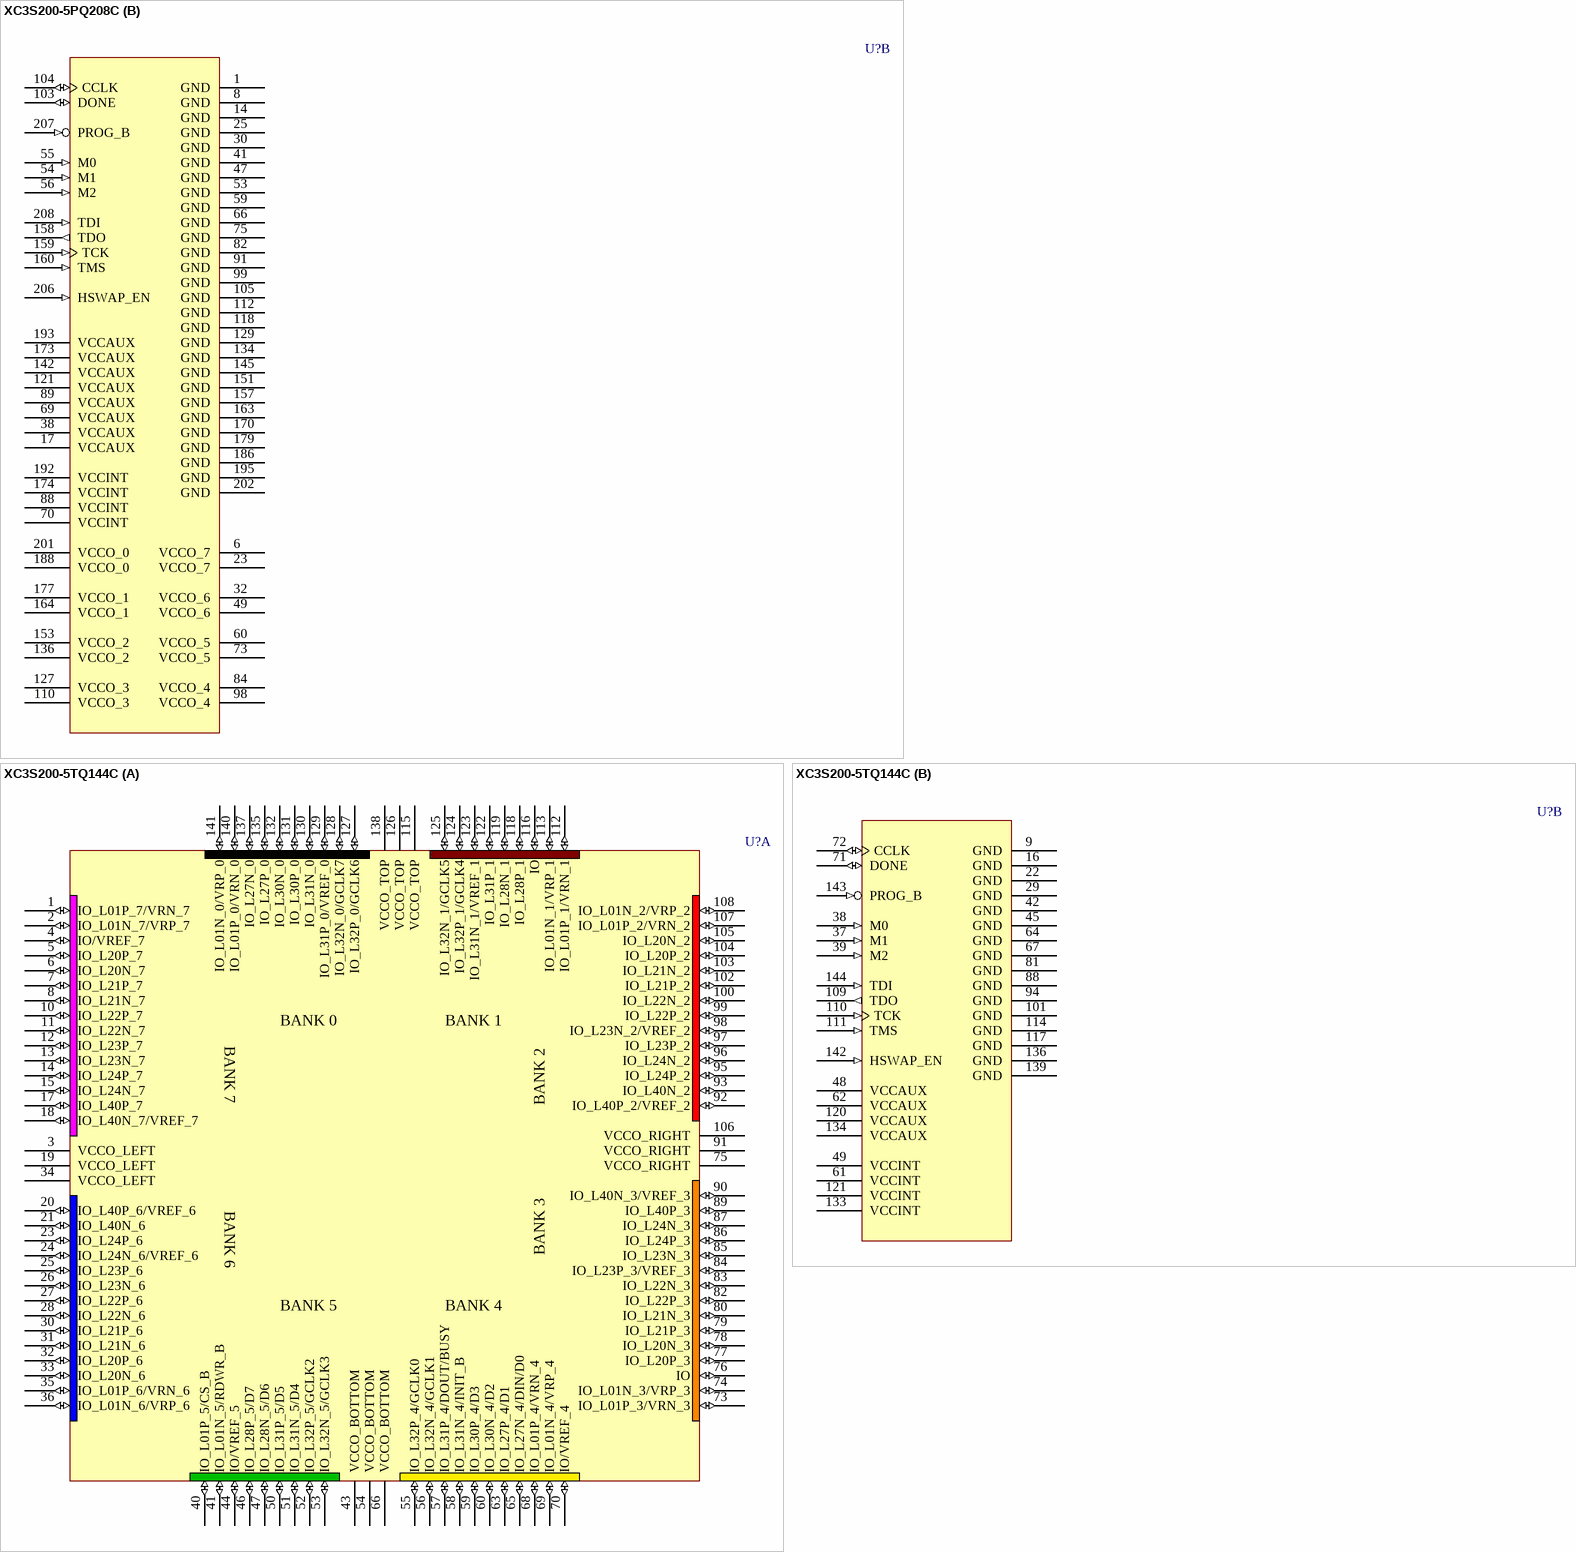
[diagram p18: symbols XC3S200-5PQ208C to XC3S200-5TQ144C]

## XC3S200-5PQ208C
designator U?
Spartan-3 1.2V FPGA, 141 User I/Os, 208-pin PQFP, High Performance, Commercial Grade; PackageDocument: ver1.1, Oct-2002; Published: 17-Sep-2003; DatasheetDocument: 04-Mar-2004; PackageReference: PQ208; Publisher: Altium Limited; Code_JEDEC: MS-029-FA-1
footprint PQ208 (208-Pin Plastic Quad Flat Pack (PQ208))
3D model XC3S200-PQ208 (208-Pin Plastic Quad Flat Pack (PQ208))
signal-integrity model XC3S200_PQ208 (Spartan-3)
part A pins: 2 IO_L01P_7/VRN_7 (io), 3 IO_L01N_7/VRP_7 (io), 4 IO_L16P_7/VREF_7 (io), 5 IO_L16N_7 (io), 7 IO_L19P_7 (io), 9 IO_L19N_7/VREF_7 (io), 10 IO_L20P_7 (io), 11 IO_L20N_7 (io), 12 IO_L21P_7 (io), 13 IO_L21N_7 (io), 15 IO_L22P_7 (io), 16 IO_L22N_7 (io), 18 IO_L23P_7 (io), 19 IO_L23N_7 (io), 20 IO_L24P_7 (io), 21 IO_L24N_7 (io), 22 IO_L39P_7 (io), 24 IO_L39N_7 (io), 26 IO_L40P_7 (io), 27 IO_L40N_7/VREF_7 (io), 28 IO_L40P_6/VREF_6 (io), 29 IO_L40N_6 (io), 31 IO_L39P_6 (io), 33 IO_L39N_6 (io), 34 IO_L24P_6 (io), 35 IO_L24N_6/VREF_6 (io), 36 IO_L23P_6 (io), 37 IO_L23N_6 (io), 39 IO_L22P_6 (io), 40 IO_L22N_6 (io), 42 IO_L21P_6 (io), 43 IO_L21N_6 (io), 44 IO_L20P_6 (io), 45 IO_L20N_6 (io), 46 IO_L19P_6 (io), 48 IO_L19N_6 (io), 50 IO/VREF_6 (io), 51 IO_L01P_6/VRN_6 (io), 52 IO_L01N_6/VRP_6 (io), 57 IO_L01P_5/CS_B (io), 58 IO_L01N_5/RDWR_B (io), 61 IO_L10P_5/VRN_5 (io), 62 IO_L10N_5/VRP_5 (io), 63 IO (io), 64 IO_L27P_5 (io), 65 IO_L27N_5/VREF_5 (io), 67 IO_L28P_5/D7 (io), 68 IO_L28N_5/D6 (io), 71 IO (io), 72 IO_L31P_5/D5 (io), 74 IO_L31N_5/D4 (io), 76 IO_L32P_5/GCLK2 (io), 77 IO_L32N_5/GCLK3 (io), 78 IO/VREF_5 (io), 79 IO_L32P_4/GCLK0 (io), 80 IO_L32N_4/GCLK1 (io), 81 IO_L31P_4/DOUT/BUSY (io), 83 IO_L31N_4/INIT_B (io), 85 IO/VREF_4 (io), 86 IO_L30P_4/D3 (io), 87 IO_L30N_4/D2 (io), 90 IO_L27P_4/D1 (io), 92 IO_L27N_4/DIN/D0 (io), 93 IO (io), 94 IO_L25P_4 (io), 95 IO_L25N_4 (io), 96 IO/VREF_4 (io), 97 IO (io), 100 IO_L01P_4/VRN_4 (io), 101 IO_L01N_4/VRP_4 (io), 102 IO/VREF_4 (io), 106 IO_L01P_3/VRN_3 (io), 107 IO_L01N_3/VRP_3 (io), 108 IO_L17P_3/VREF_3 (io), 109 IO_L17N_3 (io), 111 IO_L19P_3 (io), 113 IO_L19N_3 (io), 114 IO_L20P_3 (io), 115 IO_L20N_3 (io), 116 IO_L21P_3 (io), 117 IO_L21N_3 (io), 119 IO_L22P_3 (io), 120 IO_L22N_3 (io), 122 IO_L23P_3/VREF_3 (io), 123 IO_L23N_3 (io), 124 IO_L24P_3 (io), 125 IO_L24N_3 (io), 126 IO_L39P_3 (io), 128 IO_L39N_3 (io), 130 IO_L40P_3 (io), 131 IO_L40N_3/VREF_3 (io), 132 IO_L40P_2/VREF_2 (io), 133 IO_L40N_2 (io), 135 IO_L39P_2 (io), 137 IO_L39N_2 (io), 138 IO_L24P_2 (io), 139 IO_L24N_2 (io), 140 IO_L23P_2 (io), 141 IO_L23N_2/VREF_2 (io), 143 IO_L22P_2 (io), 144 IO_L22N_2 (io), 146 IO_L21P_2 (io), 147 IO_L21N_2 (io), 148 IO_L20P_2 (io), 149 IO_L20N_2 (io), 150 IO_L19P_2 (io), 152 IO_L19N_2 (io), 154 IO/VREF_2 (io), 155 IO_L01P_2/VRN_2 (io), 156 IO_L01N_2/VRP_2 (io), 161 IO_L01P_1/VRN_1 (io), 162 IO_L01N_1/VRP_1 (io), 165 IO_L10P_1 (io), 166 IO_L10N_1/VREF_1 (io), 167 IO (io), 168 IO_L27P_1 (io), 169 IO_L27N_1 (io), 171 IO_L28P_1 (io), 172 IO_L28N_1 (io), 175 IO (io), 176 IO_L31P_1 (io), 178 IO_L31N_1/VREF_1 (io), 180 IO_L32P_1/GCLK4 (io), 181 IO_L32N_1/GCLK5 (io), 182 IO (io), 183 IO_L32P_0/GCLK6 (io), 184 IO_L32N_0/GCLK7 (io), 185 IO_L31P_0/VREF_0 (io), 187 IO_L31N_0 (io), 189 IO (io), 190 IO_L30P_0 (io), 191 IO_L30N_0 (io), 194 IO_L27P_0 (io), 196 IO_L27N_0 (io), 197 IO (io), 198 IO_L25P_0 (io), 199 IO_L25N_0 (io), 200 IO/VREF_0 (io), 203 IO_L01P_0/VRN_0 (io), 204 IO_L01N_0/VRP_0 (io), 205 IO/VREF_0 (io)
part B pins: 1 GND (power), 6 VCCO_7 (power), 8 GND (power), 14 GND (power), 17 VCCAUX (power), 23 VCCO_7 (power), 25 GND (power), 30 GND (power), 32 VCCO_6 (power), 38 VCCAUX (power), 41 GND (power), 47 GND (power), 49 VCCO_6 (power), 53 GND (power), 54 M1 (in), 55 M0 (in), 56 M2 (in), 59 GND (power), 60 VCCO_5 (power), 66 GND (power), 69 VCCAUX (power), 70 VCCINT (power), 73 VCCO_5 (power), 75 GND (power), 82 GND (power), 84 VCCO_4 (power), 88 VCCINT (power), 89 VCCAUX (power), 91 GND (power), 98 VCCO_4 (power), 99 GND (power), 103 DONE (io), 104 CCLK (io), 105 GND (power), 110 VCCO_3 (power), 112 GND (power), 118 GND (power), 121 VCCAUX (power), 127 VCCO_3 (power), 129 GND (power), 134 GND (power), 136 VCCO_2 (power), 142 VCCAUX (power), 145 GND (power), 151 GND (power), 153 VCCO_2 (power), 157 GND (power), 158 TDO (out), 159 TCK (in), 160 TMS (in), 163 GND (power), 164 VCCO_1 (power), 170 GND (power), 173 VCCAUX (power), 174 VCCINT (power), 177 VCCO_1 (power), 179 GND (power), 186 GND (power), 188 VCCO_0 (power), 192 VCCINT (power), 193 VCCAUX (power), 195 GND (power), 201 VCCO_0 (power), 202 GND (power), 206 HSWAP_EN (in), 207 PROG_B (in), 208 TDI (in)
part A text: BANK 0; BANK 1; BANK 7; BANK 2; BANK 6; BANK 3; BANK 5; BANK 4

## XC3S200-5TQ144C
designator U?
Spartan-3 1.2V FPGA, 97 User I/Os, 144-pin TQFP, High Performance, Commercial Grade; PackageDocument: ver1.1, Oct-2002; Published: 17-Sep-2003; DatasheetDocument: 04-Mar-2004; PackageReference: TQ144; Publisher: Altium Limited; Code_JEDEC: MS-026-BFB; Code_IPC: SQFP20X20-144
footprint TQ144 (144-Pin Thin Quad Flat Pack (TQ144))
3D model XC3S200-TQ144 (144-Pin Thin Quad Flat Pack (TQ144))
signal-integrity model XC3S200_TQ144 (Spartan-3)
part A pins: 1 IO_L01P_7/VRN_7 (io), 2 IO_L01N_7/VRP_7 (io), 3 VCCO_LEFT (power), 4 IO/VREF_7 (io), 5 IO_L20P_7 (io), 6 IO_L20N_7 (io), 7 IO_L21P_7 (io), 8 IO_L21N_7 (io), 10 IO_L22P_7 (io), 11 IO_L22N_7 (io), 12 IO_L23P_7 (io), 13 IO_L23N_7 (io), 14 IO_L24P_7 (io), 15 IO_L24N_7 (io), 17 IO_L40P_7 (io), 18 IO_L40N_7/VREF_7 (io), 19 VCCO_LEFT (power), 20 IO_L40P_6/VREF_6 (io), 21 IO_L40N_6 (io), 23 IO_L24P_6 (io), 24 IO_L24N_6/VREF_6 (io), 25 IO_L23P_6 (io), 26 IO_L23N_6 (io), 27 IO_L22P_6 (io), 28 IO_L22N_6 (io), 30 IO_L21P_6 (io), 31 IO_L21N_6 (io), 32 IO_L20P_6 (io), 33 IO_L20N_6 (io), 34 VCCO_LEFT (power), 35 IO_L01P_6/VRN_6 (io), 36 IO_L01N_6/VRP_6 (io), 40 IO_L01P_5/CS_B (io), 41 IO_L01N_5/RDWR_B (io), 43 VCCO_BOTTOM (power), 44 IO/VREF_5 (io), 46 IO_L28P_5/D7 (io), 47 IO_L28N_5/D6 (io), 50 IO_L31P_5/D5 (io), 51 IO_L31N_5/D4 (io), 52 IO_L32P_5/GCLK2 (io), 53 IO_L32N_5/GCLK3 (io), 54 VCCO_BOTTOM (power), 55 IO_L32P_4/GCLK0 (io), 56 IO_L32N_4/GCLK1 (io), 57 IO_L31P_4/DOUT/BUSY (io), 58 IO_L31N_4/INIT_B (io), 59 IO_L30P_4/D3 (io), 60 IO_L30N_4/D2 (io), 63 IO_L27P_4/D1 (io), 65 IO_L27N_4/DIN/D0 (io), 66 VCCO_BOTTOM (power), 68 IO_L01P_4/VRN_4 (io), 69 IO_L01N_4/VRP_4 (io), 70 IO/VREF_4 (io), 73 IO_L01P_3/VRN_3 (io), 74 IO_L01N_3/VRP_3 (io), 75 VCCO_RIGHT (power), 76 IO (io), 77 IO_L20P_3 (io), 78 IO_L20N_3 (io), 79 IO_L21P_3 (io), 80 IO_L21N_3 (io), 82 IO_L22P_3 (io), 83 IO_L22N_3 (io), 84 IO_L23P_3/VREF_3 (io), 85 IO_L23N_3 (io), 86 IO_L24P_3 (io), 87 IO_L24N_3 (io), 89 IO_L40P_3 (io), 90 IO_L40N_3/VREF_3 (io), 91 VCCO_RIGHT (power), 92 IO_L40P_2/VREF_2 (io), 93 IO_L40N_2 (io), 95 IO_L24P_2 (io), 96 IO_L24N_2 (io), 97 IO_L23P_2 (io), 98 IO_L23N_2/VREF_2 (io), 99 IO_L22P_2 (io), 100 IO_L22N_2 (io), 102 IO_L21P_2 (io), 103 IO_L21N_2 (io), 104 IO_L20P_2 (io), 105 IO_L20N_2 (io), 106 VCCO_RIGHT (power), 107 IO_L01P_2/VRN_2 (io), 108 IO_L01N_2/VRP_2 (io), 112 IO_L01P_1/VRN_1 (io), 113 IO_L01N_1/VRP_1 (io), 115 VCCO_TOP (power), 116 IO (io), 118 IO_L28P_1 (io), 119 IO_L28N_1 (io), 122 IO_L31P_1 (io), 123 IO_L31N_1/VREF_1 (io), 124 IO_L32P_1/GCLK4 (io), 125 IO_L32N_1/GCLK5 (io), 126 VCCO_TOP (power), 127 IO_L32P_0/GCLK6 (io), 128 IO_L32N_0/GCLK7 (io), 129 IO_L31P_0/VREF_0 (io), 130 IO_L31N_0 (io), 131 IO_L30P_0 (io), 132 IO_L30N_0 (io), 135 IO_L27P_0 (io), 137 IO_L27N_0 (io), 138 VCCO_TOP (power), 140 IO_L01P_0/VRN_0 (io), 141 IO_L01N_0/VRP_0 (io)
part B pins: 9 GND (power), 16 GND (power), 22 GND (power), 29 GND (power), 37 M1 (in), 38 M0 (in), 39 M2 (in), 42 GND (power), 45 GND (power), 48 VCCAUX (power), 49 VCCINT (power), 61 VCCINT (power), 62 VCCAUX (power), 64 GND (power), 67 GND (power), 71 DONE (io), 72 CCLK (io), 81 GND (power), 88 GND (power), 94 GND (power), 101 GND (power), 109 TDO (out), 110 TCK (in), 111 TMS (in), 114 GND (power), 117 GND (power), 120 VCCAUX (power), 121 VCCINT (power), 133 VCCINT (power), 134 VCCAUX (power), 136 GND (power), 139 GND (power), 142 HSWAP_EN (in), 143 PROG_B (in), 144 TDI (in)
part A text: BANK 0; BANK 1; BANK 7; BANK 2; BANK 6; BANK 3; BANK 5; BANK 4

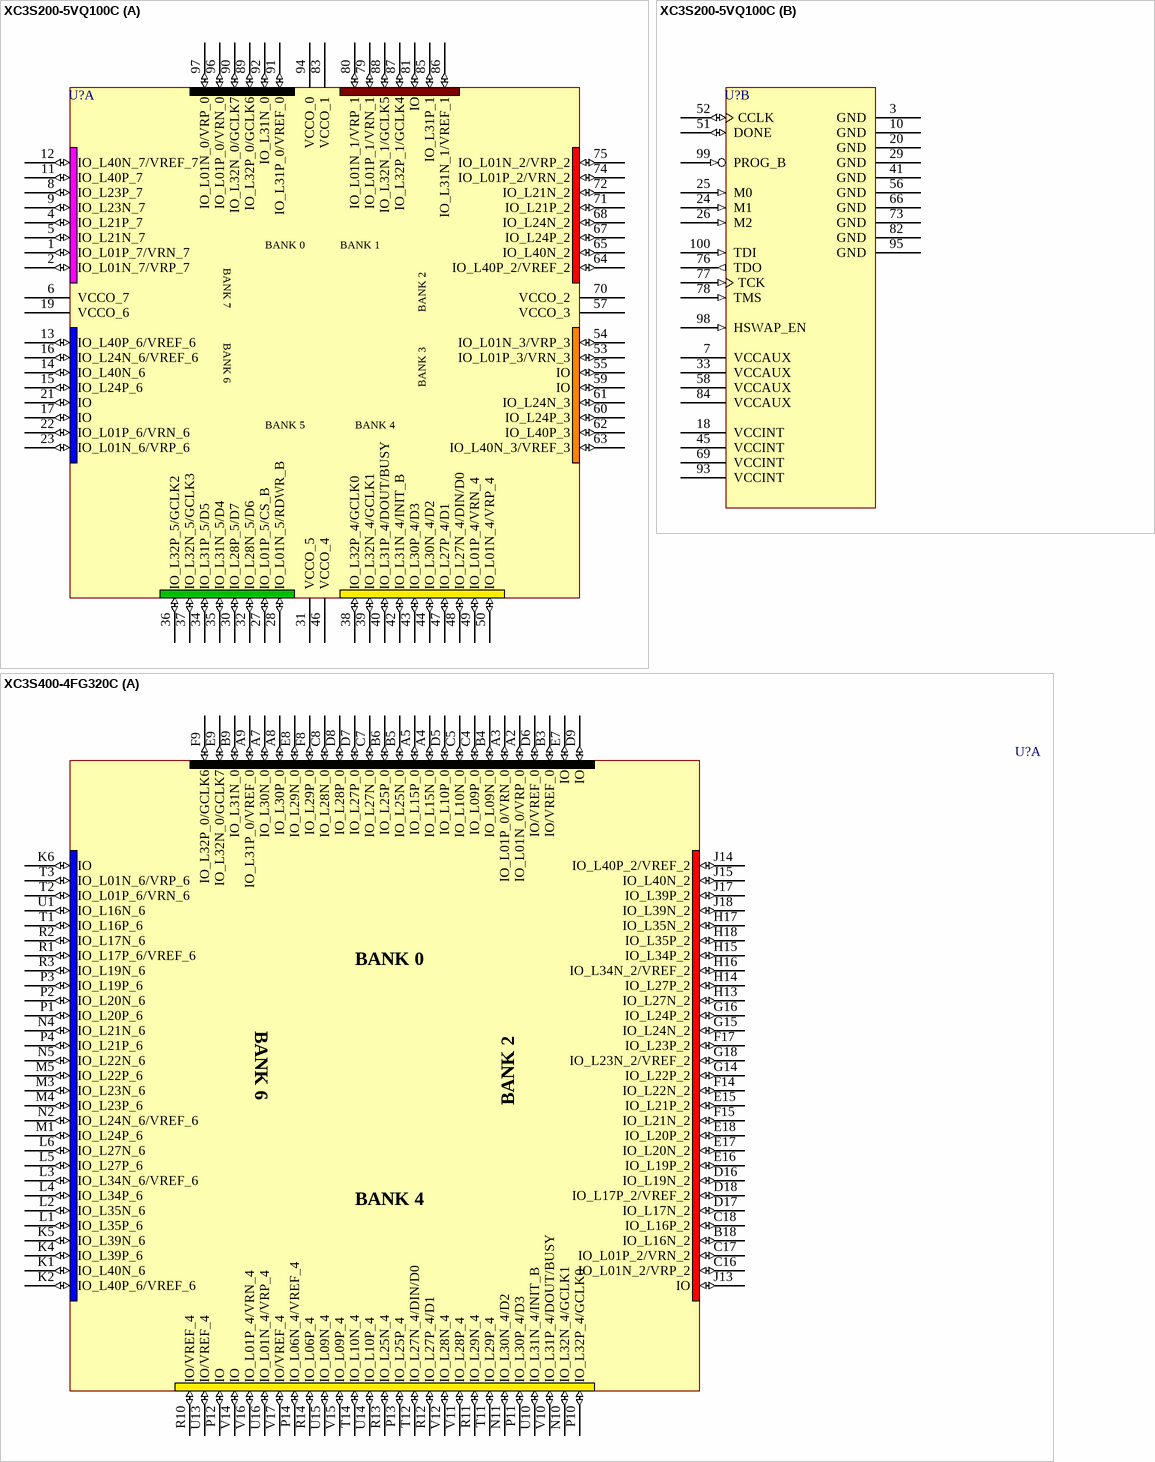
[diagram p19: symbols XC3S200-5VQ100C to XC3S400-4FG320C]

## XC3S200-5VQ100C
designator U?
Spartan-3 1.2V FPGA, 63 User I/Os, 100-pin VQFP, High Performance, Commercial Grade; PackageDocument: ver1.1, Oct-2002; Published: 17-Sep-2003; DatasheetDocument: 04-Mar-2004; PackageReference: VQ100; Publisher: Altium Limited; Code_JEDEC: MS-026-AED; Code_IPC: SQFP14X14-100
footprint VQ100 (100-Pin Very Thin Quad Flat Pack (VQ100))
3D model XC3S200-VQ100 (100-Pin Very Thin Quad Flat Pack (VQ100))
signal-integrity model XC3S200_VQ100 (Spartan-3)
part A pins: 1 IO_L01P_7/VRN_7 (io), 2 IO_L01N_7/VRP_7 (io), 4 IO_L21P_7 (io), 5 IO_L21N_7 (io), 6 VCCO_7 (power), 8 IO_L23P_7 (io), 9 IO_L23N_7 (io), 11 IO_L40P_7 (io), 12 IO_L40N_7/VREF_7 (io), 13 IO_L40P_6/VREF_6 (io), 14 IO_L40N_6 (io), 15 IO_L24P_6 (io), 16 IO_L24N_6/VREF_6 (io), 17 IO (io), 19 VCCO_6 (power), 21 IO (io), 22 IO_L01P_6/VRN_6 (io), 23 IO_L01N_6/VRP_6 (io), 27 IO_L01P_5/CS_B (io), 28 IO_L01N_5/RDWR_B (io), 30 IO_L28P_5/D7 (io), 31 VCCO_5 (power), 32 IO_L28N_5/D6 (io), 34 IO_L31P_5/D5 (io), 35 IO_L31N_5/D4 (io), 36 IO_L32P_5/GCLK2 (io), 37 IO_L32N_5/GCLK3 (io), 38 IO_L32P_4/GCLK0 (io), 39 IO_L32N_4/GCLK1 (io), 40 IO_L31P_4/DOUT/BUSY (io), 42 IO_L31N_4/INIT_B (io), 43 IO_L30P_4/D3 (io), 44 IO_L30N_4/D2 (io), 46 VCCO_4 (power), 47 IO_L27P_4/D1 (io), 48 IO_L27N_4/DIN/D0 (io), 49 IO_L01P_4/VRN_4 (io), 50 IO_L01N_4/VRP_4 (io), 53 IO_L01P_3/VRN_3 (io), 54 IO_L01N_3/VRP_3 (io), 55 IO (io), 57 VCCO_3 (power), 59 IO (io), 60 IO_L24P_3 (io), 61 IO_L24N_3 (io), 62 IO_L40P_3 (io), 63 IO_L40N_3/VREF_3 (io), 64 IO_L40P_2/VREF_2 (io), 65 IO_L40N_2 (io), 67 IO_L24P_2 (io), 68 IO_L24N_2 (io), 70 VCCO_2 (power), 71 IO_L21P_2 (io), 72 IO_L21N_2 (io), 74 IO_L01P_2/VRN_2 (io), 75 IO_L01N_2/VRP_2 (io), 79 IO_L01P_1/VRN_1 (io), 80 IO_L01N_1/VRP_1 (io), 81 IO (io), 83 VCCO_1 (power), 85 IO_L31P_1 (io), 86 IO_L31N_1/VREF_1 (io), 87 IO_L32P_1/GCLK4 (io), 88 IO_L32N_1/GCLK5 (io), 89 IO_L32P_0/GCLK6 (io), 90 IO_L32N_0/GCLK7 (io), 91 IO_L31P_0/VREF_0 (io), 92 IO_L31N_0 (io), 94 VCCO_0 (power), 96 IO_L01P_0/VRN_0 (io), 97 IO_L01N_0/VRP_0 (io)
part B pins: 3 GND (power), 7 VCCAUX (power), 10 GND (power), 18 VCCINT (power), 20 GND (power), 24 M1 (in), 25 M0 (in), 26 M2 (in), 29 GND (power), 33 VCCAUX (power), 41 GND (power), 45 VCCINT (power), 51 DONE (io), 52 CCLK (io), 56 GND (power), 58 VCCAUX (power), 66 GND (power), 69 VCCINT (power), 73 GND (power), 76 TDO (out), 77 TCK (in), 78 TMS (in), 82 GND (power), 84 VCCAUX (power), 93 VCCINT (power), 95 GND (power), 98 HSWAP_EN (in), 99 PROG_B (in), 100 TDI (in)
part A text: BANK 0; BANK 1; BANK 7; BANK 2; BANK 6; BANK 3; BANK 5; BANK 4

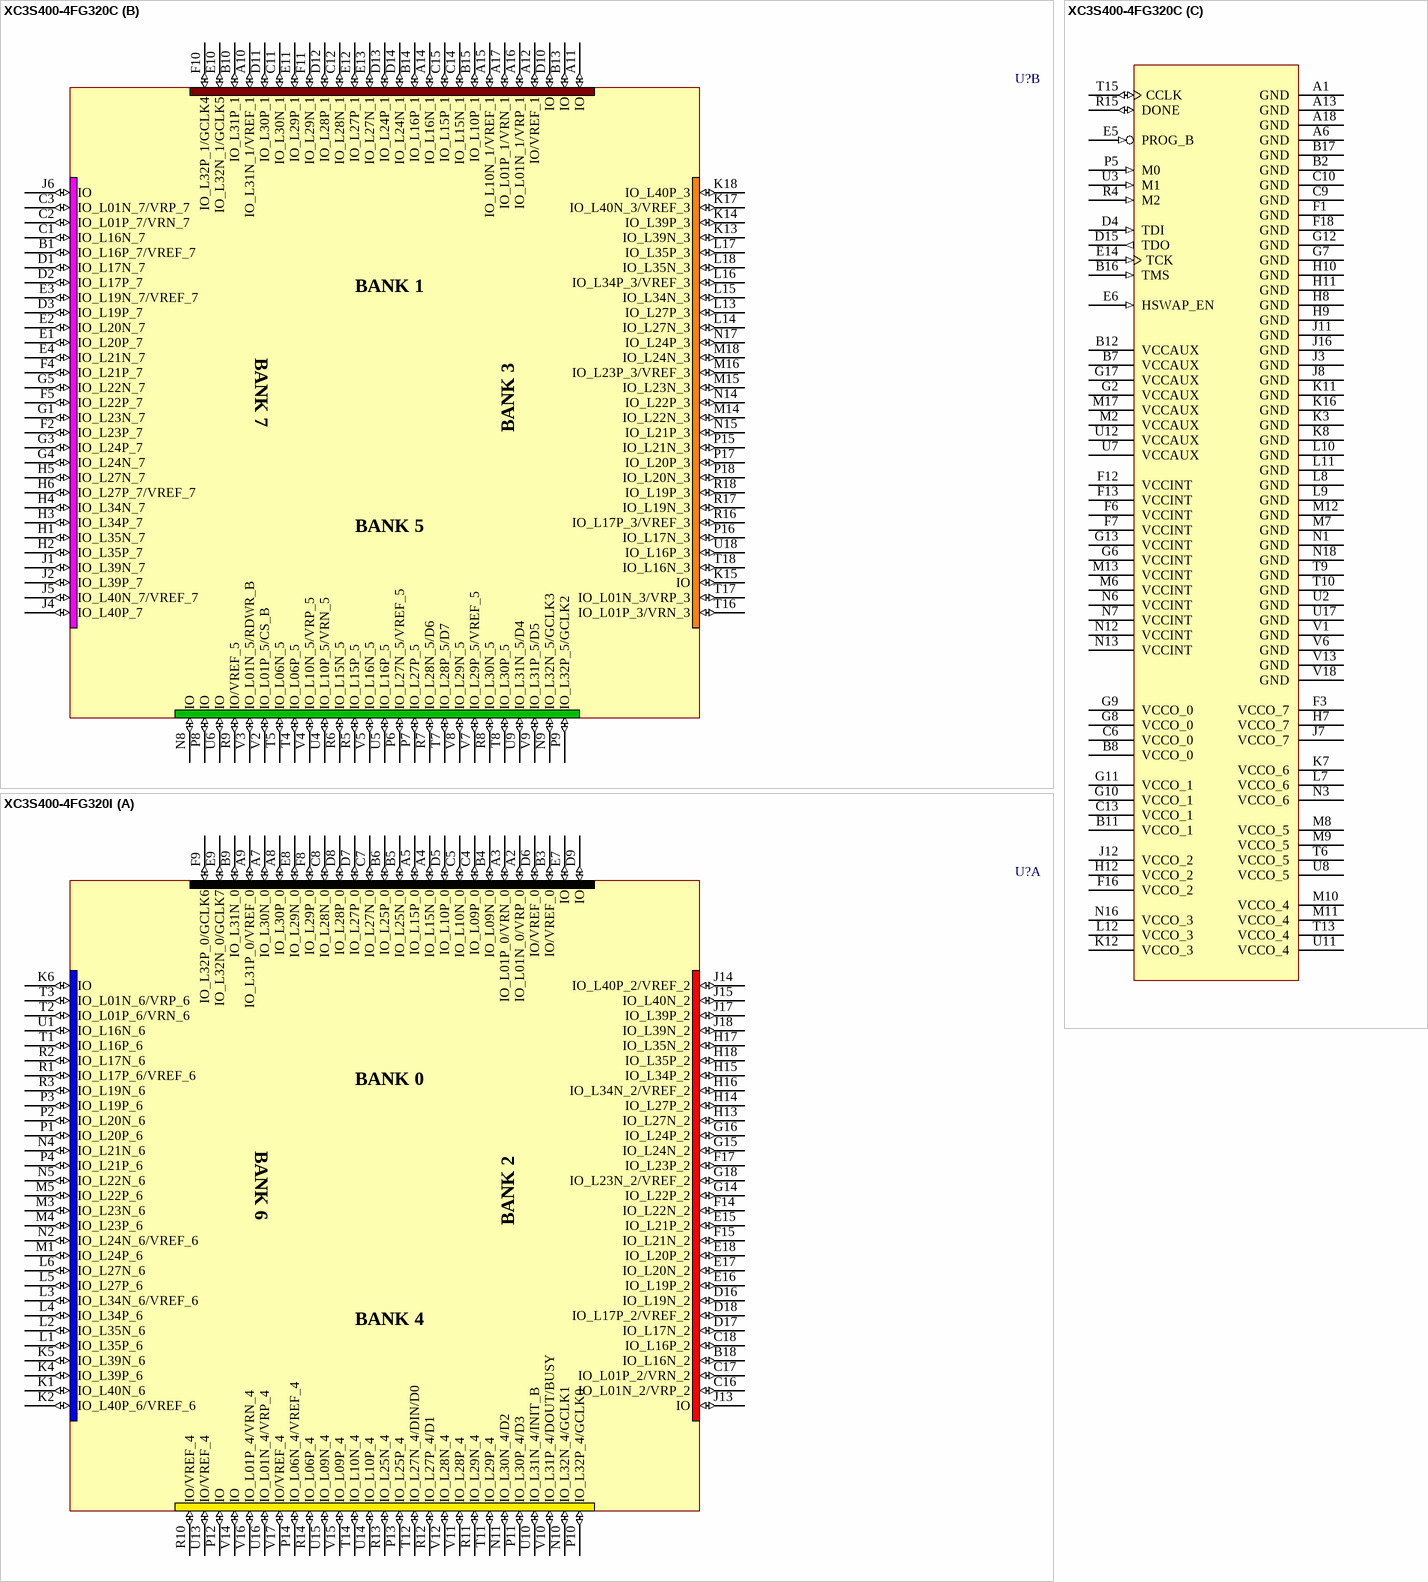
[diagram p20: symbols XC3S400-4FG320C to XC3S400-4FG320I]

## XC3S400-4FG320C
designator U?
Spartan-3 1.2V FPGA, 221 User I/Os, 320-ball FBGA, Standard Performance, Commercial Grade; PackageDocument: ver1.0, Jan-2004; Published: 17-Dec-2003; DatasheetDocument: 04-Mar-2004; PackageReference: FG320; Publisher: Altium Limited; Code_JEDEC: MS-034-AAG-1
footprint FG320 (320-Ball Fine-Pitch Ball Grid Array (FG320))
3D model XC3S400-FG320 (320-Ball Fine-Pitch Ball Grid Array (FG320))
signal-integrity model XC3S400_FG320 (Spartan-3)
part A pins: A2 IO_L01N_0/VRP_0 (io), A3 IO_L01P_0/VRN_0 (io), A4 IO_L15N_0 (io), A5 IO_L15P_0 (io), A7 IO_L30N_0 (io), A8 IO_L30P_0 (io), A9 IO_L31P_0/VREF_0 (io), B3 IO/VREF_0 (io), B4 IO_L09N_0 (io), B5 IO_L25N_0 (io), B6 IO_L25P_0 (io), B9 IO_L31N_0 (io), B18 IO_L16N_2 (io), C4 IO_L09P_0 (io), C5 IO_L10N_0 (io), C7 IO_L27N_0 (io), C8 IO_L28N_0 (io), C16 IO_L01N_2/VRP_2 (io), C17 IO_L01P_2/VRN_2 (io), C18 IO_L16P_2 (io), D5 IO_L10P_0 (io), D6 IO/VREF_0 (io), D7 IO_L27P_0 (io), D8 IO_L28P_0 (io), D9 IO (io), D16 IO_L19N_2 (io), D17 IO_L17N_2 (io), D18 IO_L17P_2/VREF_2 (io), E7 IO (io), E8 IO_L29N_0 (io), E9 IO_L32N_0/GCLK7 (io), E15 IO_L21P_2 (io), E16 IO_L19P_2 (io), E17 IO_L20N_2 (io), E18 IO_L20P_2 (io), F8 IO_L29P_0 (io), F9 IO_L32P_0/GCLK6 (io), F14 IO_L22N_2 (io), F15 IO_L21N_2 (io), F17 IO_L23P_2 (io), G14 IO_L22P_2 (io), G15 IO_L24N_2 (io), G16 IO_L24P_2 (io), G18 IO_L23N_2/VREF_2 (io), H13 IO_L27N_2 (io), H14 IO_L27P_2 (io), H15 IO_L34P_2 (io), H16 IO_L34N_2/VREF_2 (io), H17 IO_L35N_2 (io), H18 IO_L35P_2 (io), J13 IO (io), J14 IO_L40P_2/VREF_2 (io), J15 IO_L40N_2 (io), J17 IO_L39P_2 (io), J18 IO_L39N_2 (io), K1 IO_L40N_6 (io), K2 IO_L40P_6/VREF_6 (io), K4 IO_L39P_6 (io), K5 IO_L39N_6 (io), K6 IO (io), L1 IO_L35P_6 (io), L2 IO_L35N_6 (io), L3 IO_L34N_6/VREF_6 (io), L4 IO_L34P_6 (io), L5 IO_L27P_6 (io), L6 IO_L27N_6 (io), M1 IO_L24P_6 (io), M3 IO_L23N_6 (io), M4 IO_L23P_6 (io), M5 IO_L22P_6 (io), N2 IO_L24N_6/VREF_6 (io), N4 IO_L21N_6 (io), N5 IO_L22N_6 (io), N10 IO_L32N_4/GCLK1 (io), N11 IO_L30N_4/D2 (io), P1 IO_L20P_6 (io), P2 IO_L20N_6 (io), P3 IO_L19P_6 (io), P4 IO_L21P_6 (io), P10 IO_L32P_4/GCLK0 (io), P11 IO_L30P_4/D3 (io), P12 IO (io), P13 IO_L25P_4 (io), P14 IO_L06N_4/VREF_4 (io), R1 IO_L17P_6/VREF_6 (io), R2 IO_L17N_6 (io), R3 IO_L19N_6 (io), R10 IO/VREF_4 (io), R11 IO_L29N_4 (io), R12 IO_L27P_4/D1 (io), R13 IO_L25N_4 (io), R14 IO_L06P_4 (io), T1 IO_L16P_6 (io), T2 IO_L01P_6/VRN_6 (io), T3 IO_L01N_6/VRP_6 (io), T11 IO_L29P_4 (io), T12 IO_L27N_4/DIN/D0 (io), T14 IO_L10N_4 (io), U1 IO_L16N_6 (io), U10 IO_L31N_4/INIT_B (io), U13 IO/VREF_4 (io), U14 IO_L10P_4 (io), U15 IO_L09N_4 (io), U16 IO_L01N_4/VRP_4 (io), V10 IO_L31P_4/DOUT/BUSY (io), V11 IO_L28P_4 (io), V12 IO_L28N_4 (io), V14 IO (io), V15 IO_L09P_4 (io), V16 IO_L01P_4/VRN_4 (io), V17 IO/VREF_4 (io)
part B pins: A10 IO_L31N_1/VREF_1 (io), A11 IO (io), A12 IO/VREF_1 (io), A14 IO_L16N_1 (io), A15 IO_L10N_1/VREF_1 (io), A16 IO_L01N_1/VRP_1 (io), A17 IO_L01P_1/VRN_1 (io), B1 IO_L16P_7/VREF_7 (io), B10 IO_L31P_1 (io), B13 IO (io), B14 IO_L16P_1 (io), B15 IO_L10P_1 (io), C1 IO_L16N_7 (io), C2 IO_L01P_7/VRN_7 (io), C3 IO_L01N_7/VRP_7 (io), C11 IO_L30N_1 (io), C12 IO_L28N_1 (io), C14 IO_L15N_1 (io), C15 IO_L15P_1 (io), D1 IO_L17N_7 (io), D2 IO_L17P_7 (io), D3 IO_L19P_7 (io), D10 IO (io), D11 IO_L30P_1 (io), D12 IO_L28P_1 (io), D13 IO_L24P_1 (io), D14 IO_L24N_1 (io), E1 IO_L20P_7 (io), E2 IO_L20N_7 (io), E3 IO_L19N_7/VREF_7 (io), E4 IO_L21N_7 (io), E10 IO_L32N_1/GCLK5 (io), E11 IO_L29P_1 (io), E12 IO_L27P_1 (io), E13 IO_L27N_1 (io), F2 IO_L23P_7 (io), F4 IO_L21P_7 (io), F5 IO_L22P_7 (io), F10 IO_L32P_1/GCLK4 (io), F11 IO_L29N_1 (io), G1 IO_L23N_7 (io), G3 IO_L24P_7 (io), G4 IO_L24N_7 (io), G5 IO_L22N_7 (io), H1 IO_L35N_7 (io), H2 IO_L35P_7 (io), H3 IO_L34P_7 (io), H4 IO_L34N_7 (io), H5 IO_L27N_7 (io), H6 IO_L27P_7/VREF_7 (io), J1 IO_L39N_7 (io), J2 IO_L39P_7 (io), J4 IO_L40P_7 (io), J5 IO_L40N_7/VREF_7 (io), J6 IO (io), K13 IO_L39N_3 (io), K14 IO_L39P_3 (io), K15 IO (io), K17 IO_L40N_3/VREF_3 (io), K18 IO_L40P_3 (io), L13 IO_L27P_3 (io), L14 IO_L27N_3 (io), L15 IO_L34N_3 (io), L16 IO_L34P_3/VREF_3 (io), L17 IO_L35P_3 (io), L18 IO_L35N_3 (io), M14 IO_L22N_3 (io), M15 IO_L23N_3 (io), M16 IO_L23P_3/VREF_3 (io), M18 IO_L24N_3 (io), N8 IO (io), N9 IO_L32N_5/GCLK3 (io), N14 IO_L22P_3 (io), N15 IO_L21P_3 (io), N17 IO_L24P_3 (io), P6 IO_L27N_5/VREF_5 (io), P7 IO_L27P_5 (io), P8 IO (io), P9 IO_L32P_5/GCLK2 (io), P15 IO_L21N_3 (io), P16 IO_L17N_3 (io), P17 IO_L20P_3 (io), P18 IO_L20N_3 (io), R5 IO_L15P_5 (io), R6 IO_L15N_5 (io), R7 IO_L28N_5/D6 (io), R8 IO_L30N_5 (io), R9 IO/VREF_5 (io), R16 IO_L17P_3/VREF_3 (io), R17 IO_L19N_3 (io), R18 IO_L19P_3 (io), T4 IO_L06P_5 (io), T5 IO_L06N_5 (io), T7 IO_L28P_5/D7 (io), T8 IO_L30P_5 (io), T16 IO_L01P_3/VRN_3 (io), T17 IO_L01N_3/VRP_3 (io), T18 IO_L16N_3 (io), U4 IO_L10P_5/VRN_5 (io), U5 IO_L16P_5 (io), U6 IO (io), U9 IO_L31N_5/D4 (io), U18 IO_L16P_3 (io), V2 IO_L01P_5/CS_B (io), V3 IO_L01N_5/RDWR_B (io), V4 IO_L10N_5/VRP_5 (io), V5 IO_L16N_5 (io), V7 IO_L29P_5/VREF_5 (io), V8 IO_L29N_5 (io), V9 IO_L31P_5/D5 (io)
part C pins: A1 GND (power), A6 GND (power), A13 GND (power), A18 GND (power), B2 GND (power), B7 VCCAUX (power), B8 VCCO_0 (power), B11 VCCO_1 (power), B12 VCCAUX (power), B16 TMS (in), B17 GND (power), C6 VCCO_0 (power), C9 GND (power), C10 GND (power), C13 VCCO_1 (power), D4 TDI (in), D15 TDO (out), E5 PROG_B (in), E6 HSWAP_EN (in), E14 TCK (in), F1 GND (power), F3 VCCO_7 (power), F6 VCCINT (power), F7 VCCINT (power), F12 VCCINT (power), F13 VCCINT (power), F16 VCCO_2 (power), F18 GND (power), G2 VCCAUX (power), G6 VCCINT (power), G7 GND (power), G8 VCCO_0 (power), G9 VCCO_0 (power), G10 VCCO_1 (power), G11 VCCO_1 (power), G12 GND (power), G13 VCCINT (power), G17 VCCAUX (power), H7 VCCO_7 (power), H8 GND (power), H9 GND (power), H10 GND (power), H11 GND (power), H12 VCCO_2 (power), J3 GND (power), J7 VCCO_7 (power), J8 GND (power), J11 GND (power), J12 VCCO_2 (power), J16 GND (power), K3 GND (power), K7 VCCO_6 (power), K8 GND (power), K11 GND (power), K12 VCCO_3 (power), K16 GND (power), L7 VCCO_6 (power), L8 GND (power), L9 GND (power), L10 GND (power), L11 GND (power), L12 VCCO_3 (power), M2 VCCAUX (power), M6 VCCINT (power), M7 GND (power), M8 VCCO_5 (power), M9 VCCO_5 (power), M10 VCCO_4 (power), M11 VCCO_4 (power), M12 GND (power), M13 VCCINT (power), M17 VCCAUX (power), N1 GND (power), N3 VCCO_6 (power), N6 VCCINT (power), N7 VCCINT (power), N12 VCCINT (power), N13 VCCINT (power), N16 VCCO_3 (power), N18 GND (power), P5 M0 (in), R4 M2 (in), R15 DONE (io), T6 VCCO_5 (power), T9 GND (power), T10 GND (power), T13 VCCO_4 (power), T15 CCLK (io), U2 GND (power), U3 M1 (in), U7 VCCAUX (power), U8 VCCO_5 (power), U11 VCCO_4 (power), U12 VCCAUX (power), U17 GND (power), V1 GND (power), V6 GND (power), V13 GND (power), V18 GND (power)
part A text: BANK 0; BANK 6; BANK 2; BANK 4
part B text: BANK 1; BANK 7; BANK 3; BANK 5

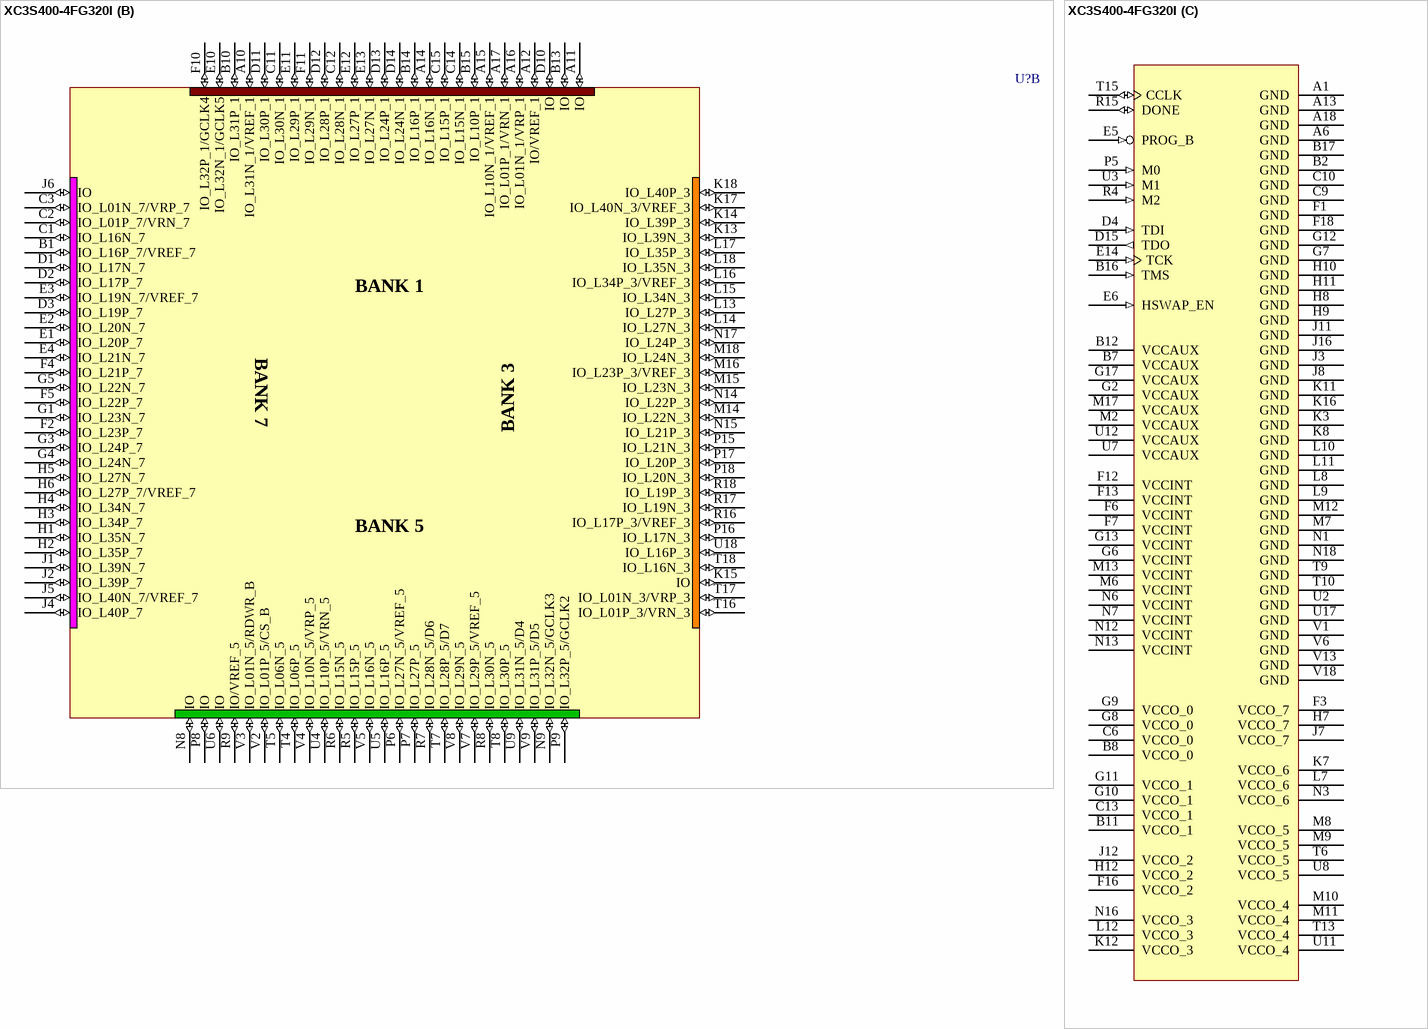
[diagram p21: symbol XC3S400-4FG320I]

## XC3S400-4FG320I
designator U?
Spartan-3 1.2V FPGA, 221 User I/Os, 320-ball FBGA, Standard Performance, Industrial Grade; PackageDocument: ver1.0, Jan-2004; Published: 17-Dec-2003; DatasheetDocument: 04-Mar-2004; PackageReference: FG320; Publisher: Altium Limited; Code_JEDEC: MS-034-AAG-1
footprint FG320 (320-Ball Fine-Pitch Ball Grid Array (FG320))
3D model XC3S400-FG320 (320-Ball Fine-Pitch Ball Grid Array (FG320))
signal-integrity model XC3S400_FG320 (Spartan-3)
part A pins: A2 IO_L01N_0/VRP_0 (io), A3 IO_L01P_0/VRN_0 (io), A4 IO_L15N_0 (io), A5 IO_L15P_0 (io), A7 IO_L30N_0 (io), A8 IO_L30P_0 (io), A9 IO_L31P_0/VREF_0 (io), B3 IO/VREF_0 (io), B4 IO_L09N_0 (io), B5 IO_L25N_0 (io), B6 IO_L25P_0 (io), B9 IO_L31N_0 (io), B18 IO_L16N_2 (io), C4 IO_L09P_0 (io), C5 IO_L10N_0 (io), C7 IO_L27N_0 (io), C8 IO_L28N_0 (io), C16 IO_L01N_2/VRP_2 (io), C17 IO_L01P_2/VRN_2 (io), C18 IO_L16P_2 (io), D5 IO_L10P_0 (io), D6 IO/VREF_0 (io), D7 IO_L27P_0 (io), D8 IO_L28P_0 (io), D9 IO (io), D16 IO_L19N_2 (io), D17 IO_L17N_2 (io), D18 IO_L17P_2/VREF_2 (io), E7 IO (io), E8 IO_L29N_0 (io), E9 IO_L32N_0/GCLK7 (io), E15 IO_L21P_2 (io), E16 IO_L19P_2 (io), E17 IO_L20N_2 (io), E18 IO_L20P_2 (io), F8 IO_L29P_0 (io), F9 IO_L32P_0/GCLK6 (io), F14 IO_L22N_2 (io), F15 IO_L21N_2 (io), F17 IO_L23P_2 (io), G14 IO_L22P_2 (io), G15 IO_L24N_2 (io), G16 IO_L24P_2 (io), G18 IO_L23N_2/VREF_2 (io), H13 IO_L27N_2 (io), H14 IO_L27P_2 (io), H15 IO_L34P_2 (io), H16 IO_L34N_2/VREF_2 (io), H17 IO_L35N_2 (io), H18 IO_L35P_2 (io), J13 IO (io), J14 IO_L40P_2/VREF_2 (io), J15 IO_L40N_2 (io), J17 IO_L39P_2 (io), J18 IO_L39N_2 (io), K1 IO_L40N_6 (io), K2 IO_L40P_6/VREF_6 (io), K4 IO_L39P_6 (io), K5 IO_L39N_6 (io), K6 IO (io), L1 IO_L35P_6 (io), L2 IO_L35N_6 (io), L3 IO_L34N_6/VREF_6 (io), L4 IO_L34P_6 (io), L5 IO_L27P_6 (io), L6 IO_L27N_6 (io), M1 IO_L24P_6 (io), M3 IO_L23N_6 (io), M4 IO_L23P_6 (io), M5 IO_L22P_6 (io), N2 IO_L24N_6/VREF_6 (io), N4 IO_L21N_6 (io), N5 IO_L22N_6 (io), N10 IO_L32N_4/GCLK1 (io), N11 IO_L30N_4/D2 (io), P1 IO_L20P_6 (io), P2 IO_L20N_6 (io), P3 IO_L19P_6 (io), P4 IO_L21P_6 (io), P10 IO_L32P_4/GCLK0 (io), P11 IO_L30P_4/D3 (io), P12 IO (io), P13 IO_L25P_4 (io), P14 IO_L06N_4/VREF_4 (io), R1 IO_L17P_6/VREF_6 (io), R2 IO_L17N_6 (io), R3 IO_L19N_6 (io), R10 IO/VREF_4 (io), R11 IO_L29N_4 (io), R12 IO_L27P_4/D1 (io), R13 IO_L25N_4 (io), R14 IO_L06P_4 (io), T1 IO_L16P_6 (io), T2 IO_L01P_6/VRN_6 (io), T3 IO_L01N_6/VRP_6 (io), T11 IO_L29P_4 (io), T12 IO_L27N_4/DIN/D0 (io), T14 IO_L10N_4 (io), U1 IO_L16N_6 (io), U10 IO_L31N_4/INIT_B (io), U13 IO/VREF_4 (io), U14 IO_L10P_4 (io), U15 IO_L09N_4 (io), U16 IO_L01N_4/VRP_4 (io), V10 IO_L31P_4/DOUT/BUSY (io), V11 IO_L28P_4 (io), V12 IO_L28N_4 (io), V14 IO (io), V15 IO_L09P_4 (io), V16 IO_L01P_4/VRN_4 (io), V17 IO/VREF_4 (io)
part B pins: A10 IO_L31N_1/VREF_1 (io), A11 IO (io), A12 IO/VREF_1 (io), A14 IO_L16N_1 (io), A15 IO_L10N_1/VREF_1 (io), A16 IO_L01N_1/VRP_1 (io), A17 IO_L01P_1/VRN_1 (io), B1 IO_L16P_7/VREF_7 (io), B10 IO_L31P_1 (io), B13 IO (io), B14 IO_L16P_1 (io), B15 IO_L10P_1 (io), C1 IO_L16N_7 (io), C2 IO_L01P_7/VRN_7 (io), C3 IO_L01N_7/VRP_7 (io), C11 IO_L30N_1 (io), C12 IO_L28N_1 (io), C14 IO_L15N_1 (io), C15 IO_L15P_1 (io), D1 IO_L17N_7 (io), D2 IO_L17P_7 (io), D3 IO_L19P_7 (io), D10 IO (io), D11 IO_L30P_1 (io), D12 IO_L28P_1 (io), D13 IO_L24P_1 (io), D14 IO_L24N_1 (io), E1 IO_L20P_7 (io), E2 IO_L20N_7 (io), E3 IO_L19N_7/VREF_7 (io), E4 IO_L21N_7 (io), E10 IO_L32N_1/GCLK5 (io), E11 IO_L29P_1 (io), E12 IO_L27P_1 (io), E13 IO_L27N_1 (io), F2 IO_L23P_7 (io), F4 IO_L21P_7 (io), F5 IO_L22P_7 (io), F10 IO_L32P_1/GCLK4 (io), F11 IO_L29N_1 (io), G1 IO_L23N_7 (io), G3 IO_L24P_7 (io), G4 IO_L24N_7 (io), G5 IO_L22N_7 (io), H1 IO_L35N_7 (io), H2 IO_L35P_7 (io), H3 IO_L34P_7 (io), H4 IO_L34N_7 (io), H5 IO_L27N_7 (io), H6 IO_L27P_7/VREF_7 (io), J1 IO_L39N_7 (io), J2 IO_L39P_7 (io), J4 IO_L40P_7 (io), J5 IO_L40N_7/VREF_7 (io), J6 IO (io), K13 IO_L39N_3 (io), K14 IO_L39P_3 (io), K15 IO (io), K17 IO_L40N_3/VREF_3 (io), K18 IO_L40P_3 (io), L13 IO_L27P_3 (io), L14 IO_L27N_3 (io), L15 IO_L34N_3 (io), L16 IO_L34P_3/VREF_3 (io), L17 IO_L35P_3 (io), L18 IO_L35N_3 (io), M14 IO_L22N_3 (io), M15 IO_L23N_3 (io), M16 IO_L23P_3/VREF_3 (io), M18 IO_L24N_3 (io), N8 IO (io), N9 IO_L32N_5/GCLK3 (io), N14 IO_L22P_3 (io), N15 IO_L21P_3 (io), N17 IO_L24P_3 (io), P6 IO_L27N_5/VREF_5 (io), P7 IO_L27P_5 (io), P8 IO (io), P9 IO_L32P_5/GCLK2 (io), P15 IO_L21N_3 (io), P16 IO_L17N_3 (io), P17 IO_L20P_3 (io), P18 IO_L20N_3 (io), R5 IO_L15P_5 (io), R6 IO_L15N_5 (io), R7 IO_L28N_5/D6 (io), R8 IO_L30N_5 (io), R9 IO/VREF_5 (io), R16 IO_L17P_3/VREF_3 (io), R17 IO_L19N_3 (io), R18 IO_L19P_3 (io), T4 IO_L06P_5 (io), T5 IO_L06N_5 (io), T7 IO_L28P_5/D7 (io), T8 IO_L30P_5 (io), T16 IO_L01P_3/VRN_3 (io), T17 IO_L01N_3/VRP_3 (io), T18 IO_L16N_3 (io), U4 IO_L10P_5/VRN_5 (io), U5 IO_L16P_5 (io), U6 IO (io), U9 IO_L31N_5/D4 (io), U18 IO_L16P_3 (io), V2 IO_L01P_5/CS_B (io), V3 IO_L01N_5/RDWR_B (io), V4 IO_L10N_5/VRP_5 (io), V5 IO_L16N_5 (io), V7 IO_L29P_5/VREF_5 (io), V8 IO_L29N_5 (io), V9 IO_L31P_5/D5 (io)
part C pins: A1 GND (power), A6 GND (power), A13 GND (power), A18 GND (power), B2 GND (power), B7 VCCAUX (power), B8 VCCO_0 (power), B11 VCCO_1 (power), B12 VCCAUX (power), B16 TMS (in), B17 GND (power), C6 VCCO_0 (power), C9 GND (power), C10 GND (power), C13 VCCO_1 (power), D4 TDI (in), D15 TDO (out), E5 PROG_B (in), E6 HSWAP_EN (in), E14 TCK (in), F1 GND (power), F3 VCCO_7 (power), F6 VCCINT (power), F7 VCCINT (power), F12 VCCINT (power), F13 VCCINT (power), F16 VCCO_2 (power), F18 GND (power), G2 VCCAUX (power), G6 VCCINT (power), G7 GND (power), G8 VCCO_0 (power), G9 VCCO_0 (power), G10 VCCO_1 (power), G11 VCCO_1 (power), G12 GND (power), G13 VCCINT (power), G17 VCCAUX (power), H7 VCCO_7 (power), H8 GND (power), H9 GND (power), H10 GND (power), H11 GND (power), H12 VCCO_2 (power), J3 GND (power), J7 VCCO_7 (power), J8 GND (power), J11 GND (power), J12 VCCO_2 (power), J16 GND (power), K3 GND (power), K7 VCCO_6 (power), K8 GND (power), K11 GND (power), K12 VCCO_3 (power), K16 GND (power), L7 VCCO_6 (power), L8 GND (power), L9 GND (power), L10 GND (power), L11 GND (power), L12 VCCO_3 (power), M2 VCCAUX (power), M6 VCCINT (power), M7 GND (power), M8 VCCO_5 (power), M9 VCCO_5 (power), M10 VCCO_4 (power), M11 VCCO_4 (power), M12 GND (power), M13 VCCINT (power), M17 VCCAUX (power), N1 GND (power), N3 VCCO_6 (power), N6 VCCINT (power), N7 VCCINT (power), N12 VCCINT (power), N13 VCCINT (power), N16 VCCO_3 (power), N18 GND (power), P5 M0 (in), R4 M2 (in), R15 DONE (io), T6 VCCO_5 (power), T9 GND (power), T10 GND (power), T13 VCCO_4 (power), T15 CCLK (io), U2 GND (power), U3 M1 (in), U7 VCCAUX (power), U8 VCCO_5 (power), U11 VCCO_4 (power), U12 VCCAUX (power), U17 GND (power), V1 GND (power), V6 GND (power), V13 GND (power), V18 GND (power)
part A text: BANK 0; BANK 6; BANK 2; BANK 4
part B text: BANK 1; BANK 7; BANK 3; BANK 5

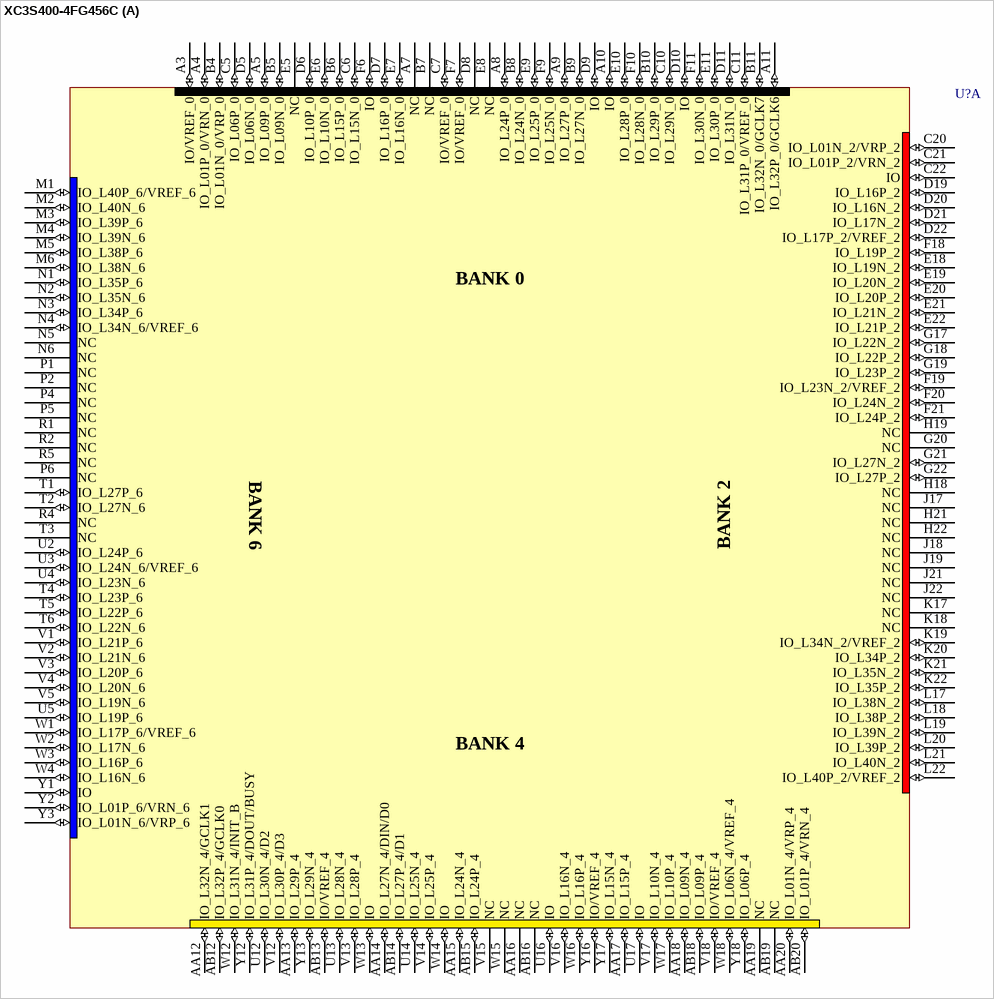
[diagram p22: symbol XC3S400-4FG456C]

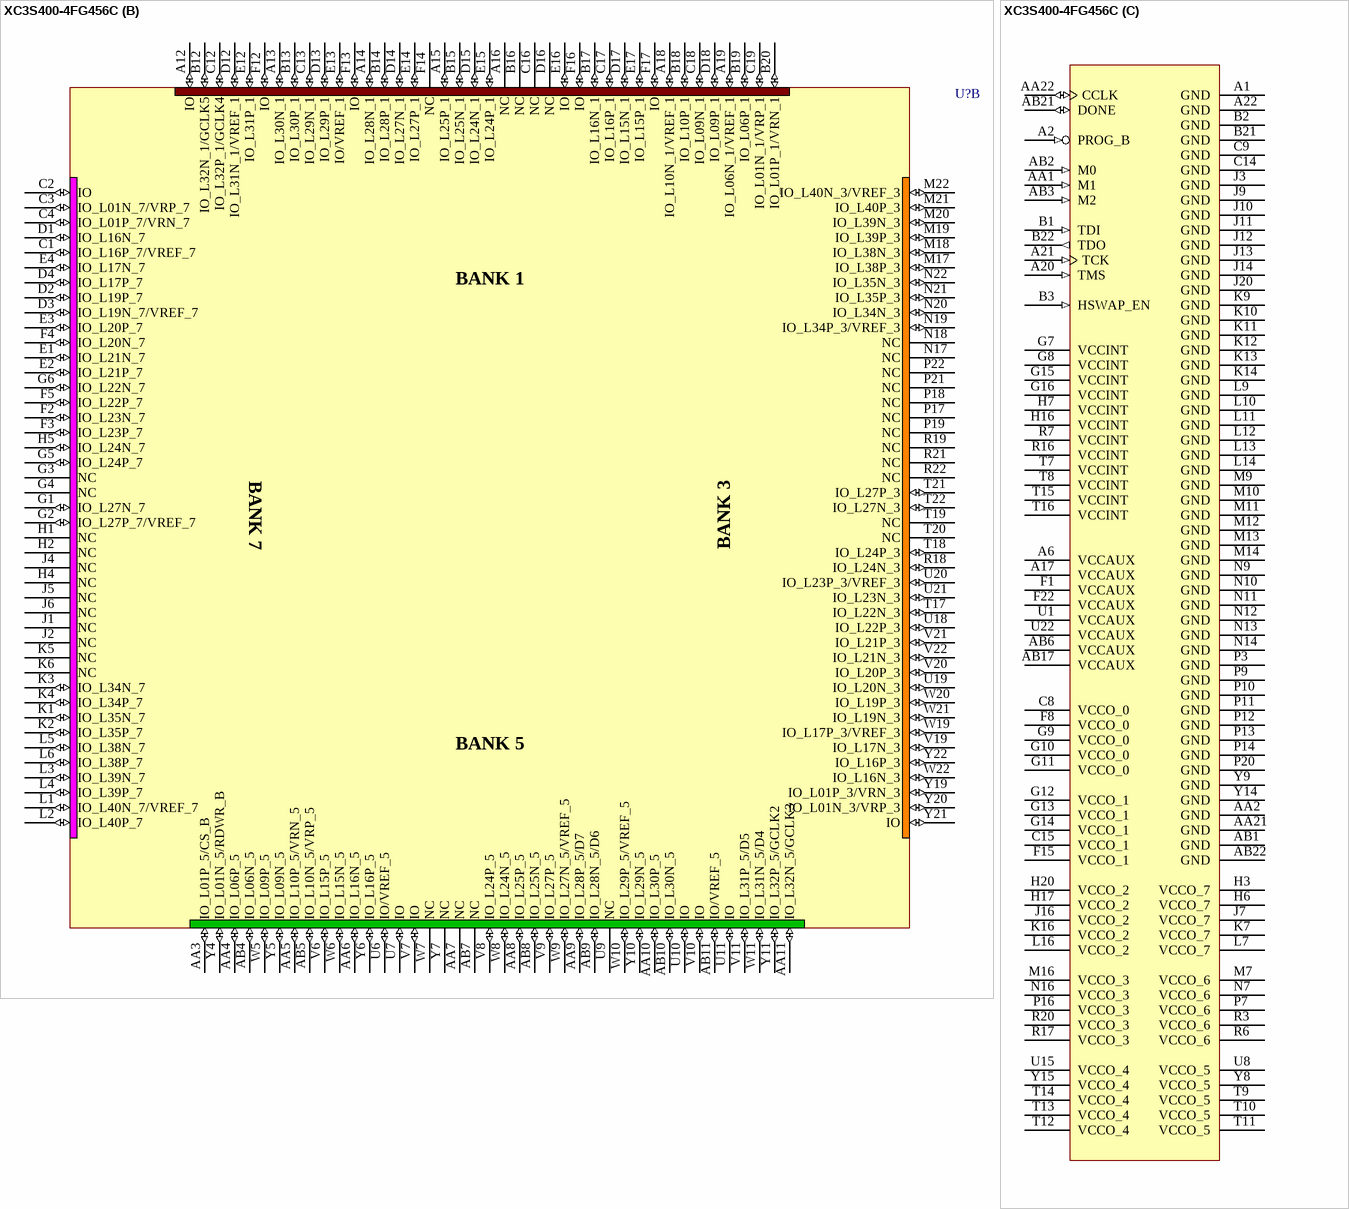
[diagram p23: symbol XC3S400-4FG456C]